# Altium schematic symbol library devices.SCHLIB: 305 symbols (part 3 of 5)
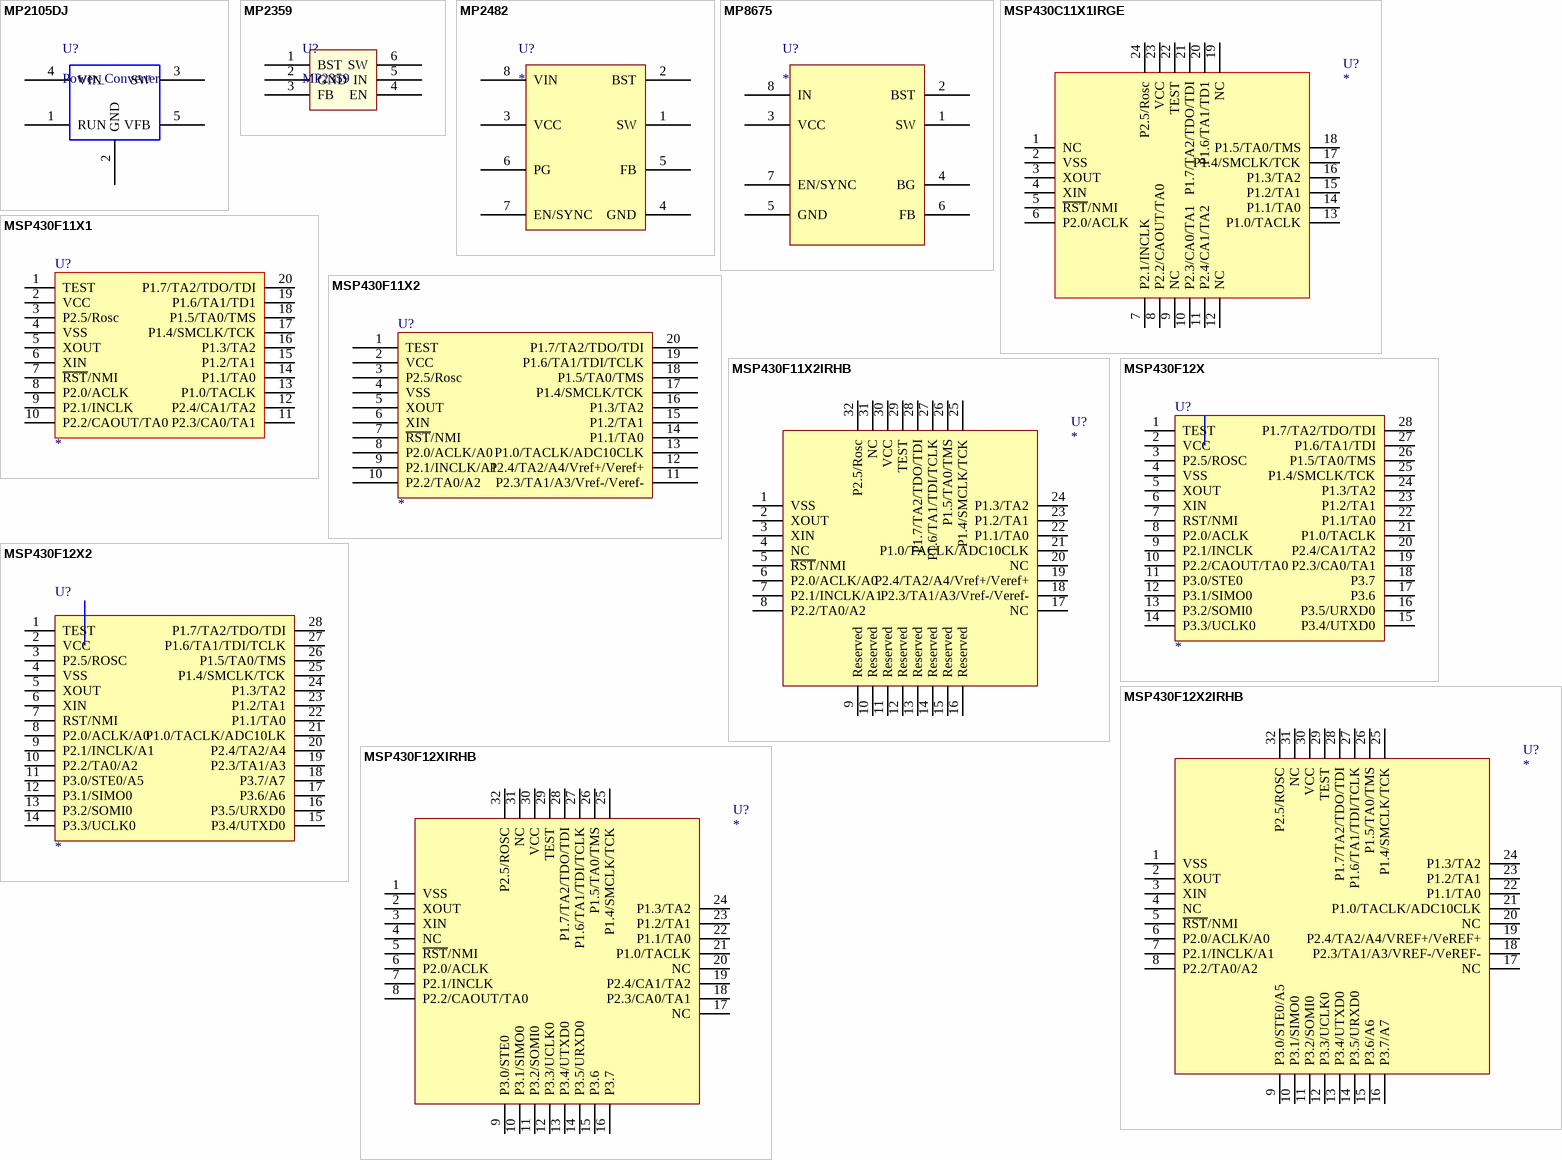
[diagram p51: symbols MP2105DJ to MSP430F12XIRHB]

## MSP430F12XIRHB
designator U?
footprint QFN32
pins: 1 VSS (power), 2 XOUT (power), 3 XIN (power), 4 NC (power), 5 ~{RST}/NMI (power), 6 P2.0/ACLK (power), 7 P2.1/INCLK (power), 8 P2.2/CAOUT/TA0 (power), 9 P3.0/STE0 (power), 10 P3.1/SIMO0 (power), 11 P3.2/SOMI0 (power), 12 P3.3/UCLK0 (power), 13 P3.4/UTXD0 (power), 14 P3.5/URXD0 (power), 15 P3.6 (power), 16 P3.7 (power), 17 NC (power), 18 P2.3/CA0/TA1 (power), 19 P2.4/CA1/TA2 (power), 20 NC (power), 21 P1.0/TACLK (power), 22 P1.1/TA0 (power), 23 P1.2/TA1 (power), 24 P1.3/TA2 (power), 25 P1.4/SMCLK/TCK (power), 26 P1.5/TA0/TMS (power), 27 P1.6/TA1/TDI/TCLK (power), 28 P1.7/TA2/TDO/TDI (power), 29 TEST (power), 30 VCC (power), 31 NC (power), 32 P2.5/ROSC (power)

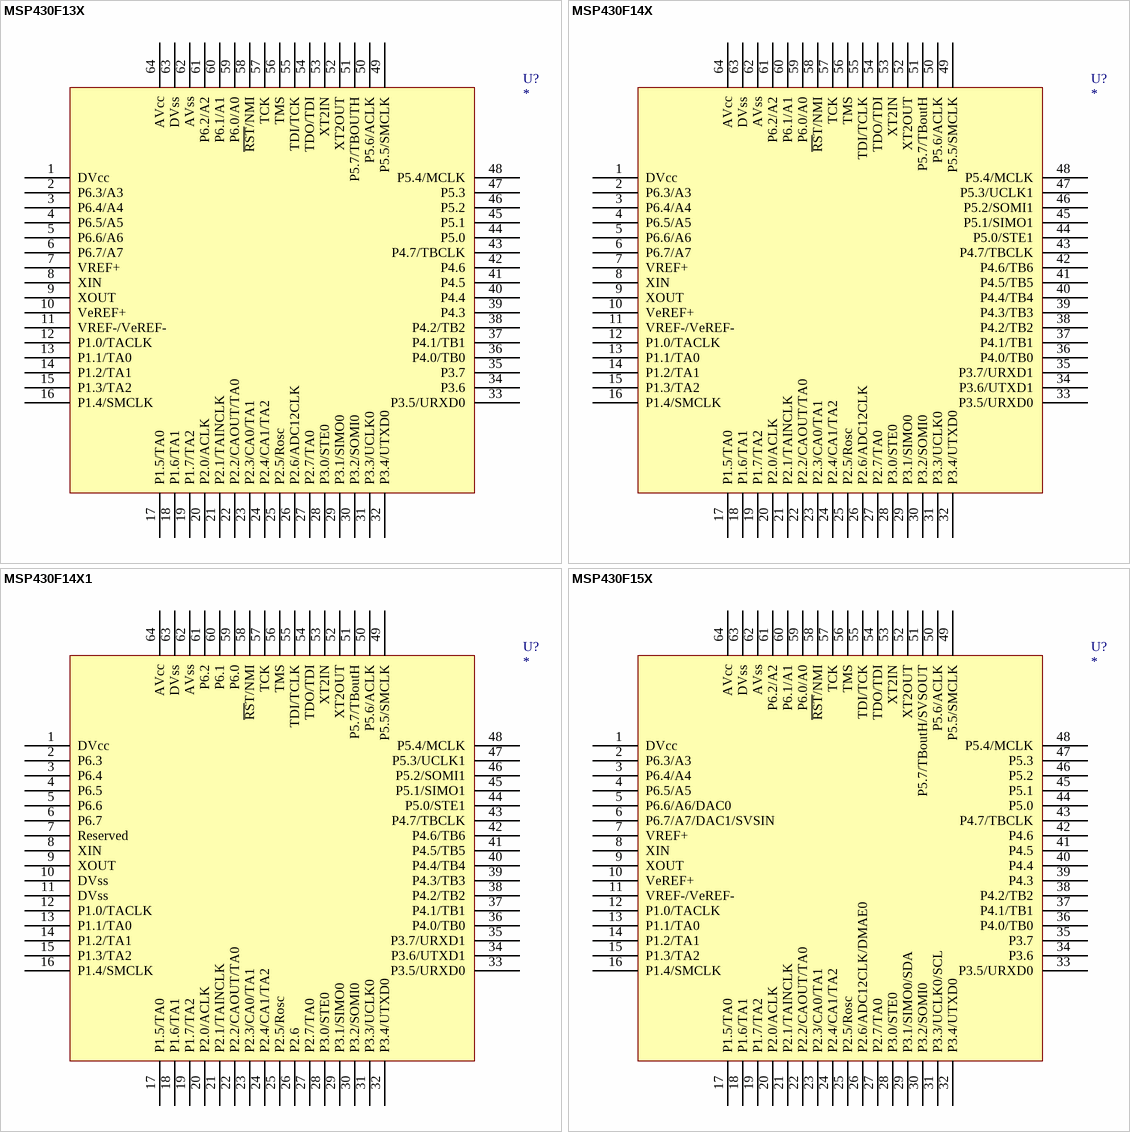
[diagram p14: symbols MSP430F13X to MSP430F15X]

## MSP430F13X
designator U?
footprint S-PQFP-G64
footprint QFN64
pins: 1 DVcc (power), 2 P6.3/A3 (power), 3 P6.4/A4 (power), 4 P6.5/A5 (power), 5 P6.6/A6 (power), 6 P6.7/A7 (power), 7 VREF+ (power), 8 XIN (power), 9 XOUT (power), 10 VeREF+ (power), 11 VREF-/VeREF- (power), 12 P1.0/TACLK (power), 13 P1.1/TA0 (power), 14 P1.2/TA1 (power), 15 P1.3/TA2 (power), 16 P1.4/SMCLK (power), 17 P1.5/TA0 (power), 18 P1.6/TA1 (power), 19 P1.7/TA2 (power), 20 P2.0/ACLK (power), 21 P2.1/TAINCLK (power), 22 P2.2/CAOUT/TA0 (power), 23 P2.3/CA0/TA1 (power), 24 P2.4/CA1/TA2 (power), 25 P2.5/Rosc (power), 26 P2.6/ADC12CLK (power), 27 P2.7/TA0 (power), 28 P3.0/STE0 (power), 29 P3.1/SIMO0 (power), 30 P3.2/SOMI0 (power), 31 P3.3/UCLK0 (power), 32 P3.4/UTXD0 (power), 33 P3.5/URXD0 (power), 34 P3.6 (power), 35 P3.7 (power), 36 P4.0/TB0 (power), 37 P4.1/TB1 (power), 38 P4.2/TB2 (power), 39 P4.3 (power), 40 P4.4 (power), 41 P4.5 (power), 42 P4.6 (power), 43 P4.7/TBCLK (power), 44 P5.0 (power), 45 P5.1 (power), 46 P5.2 (power), 47 P5.3 (power), 48 P5.4/MCLK (power), 49 P5.5/SMCLK (power), 50 P5.6/ACLK (power), 51 P5.7/TBOUTH (power), 52 XT2OUT (power), 53 XT2IN (power), 54 TDO/TDI (power), 55 TDI/TCK (power), 56 TMS (power), 57 TCK (power), 58 ~{RST}/NMI (power), 59 P6.0/A0 (power), 60 P6.1/A1 (power), 61 P6.2/A2 (power), 62 AVss (power), 63 DVss (power), 64 AVcc (power)

## MSP430F14X
designator U?
footprint S-PQFP-G64
footprint QFN64
pins: 1 DVcc (power), 2 P6.3/A3 (power), 3 P6.4/A4 (power), 4 P6.5/A5 (power), 5 P6.6/A6 (power), 6 P6.7/A7 (power), 7 VREF+ (power), 8 XIN (power), 9 XOUT (power), 10 VeREF+ (power), 11 VREF-/VeREF- (power), 12 P1.0/TACLK (power), 13 P1.1/TA0 (power), 14 P1.2/TA1 (power), 15 P1.3/TA2 (power), 16 P1.4/SMCLK (power), 17 P1.5/TA0 (power), 18 P1.6/TA1 (power), 19 P1.7/TA2 (power), 20 P2.0/ACLK (power), 21 P2.1/TAINCLK (power), 22 P2.2/CAOUT/TA0 (power), 23 P2.3/CA0/TA1 (power), 24 P2.4/CA1/TA2 (power), 25 P2.5/Rosc (power), 26 P2.6/ADC12CLK (power), 27 P2.7/TA0 (power), 28 P3.0/STE0 (power), 29 P3.1/SIMO0 (power), 30 P3.2/SOMI0 (power), 31 P3.3/UCLK0 (power), 32 P3.4/UTXD0 (power), 33 P3.5/URXD0 (power), 34 P3.6/UTXD1 (power), 35 P3.7/URXD1 (power), 36 P4.0/TB0 (power), 37 P4.1/TB1 (power), 38 P4.2/TB2 (power), 39 P4.3/TB3 (power), 40 P4.4/TB4 (power), 41 P4.5/TB5 (power), 42 P4.6/TB6 (power), 43 P4.7/TBCLK (power), 44 P5.0/STE1 (power), 45 P5.1/SIMO1 (power), 46 P5.2/SOMI1 (power), 47 P5.3/UCLK1 (power), 48 P5.4/MCLK (power), 49 P5.5/SMCLK (power), 50 P5.6/ACLK (power), 51 P5.7/TBoutH (power), 52 XT2OUT (power), 53 XT2IN (power), 54 TDO/TDI (power), 55 TDI/TCLK (power), 56 TMS (power), 57 TCK (power), 58 ~{RS}T/NMI (power), 59 P6.0/A0 (power), 60 P6.1/A1 (power), 61 P6.2/A2 (power), 62 AVss (power), 63 DVss (power), 64 AVcc (power)

## MSP430F14X1
designator U?
footprint S-PQFP-G64
pins: 1 DVcc (power), 2 P6.3 (power), 3 P6.4 (power), 4 P6.5 (power), 5 P6.6 (power), 6 P6.7 (power), 7 Reserved (power), 8 XIN (power), 9 XOUT (power), 10 DVss (power), 11 DVss (power), 12 P1.0/TACLK (power), 13 P1.1/TA0 (power), 14 P1.2/TA1 (power), 15 P1.3/TA2 (power), 16 P1.4/SMCLK (power), 17 P1.5/TA0 (power), 18 P1.6/TA1 (power), 19 P1.7/TA2 (power), 20 P2.0/ACLK (power), 21 P2.1/TAINCLK (power), 22 P2.2/CAOUT/TA0 (power), 23 P2.3/CA0/TA1 (power), 24 P2.4/CA1/TA2 (power), 25 P2.5/Rosc (power), 26 P2.6 (power), 27 P2.7/TA0 (power), 28 P3.0/STE0 (power), 29 P3.1/SIMO0 (power), 30 P3.2/SOMI0 (power), 31 P3.3/UCLK0 (power), 32 P3.4/UTXD0 (power), 33 P3.5/URXD0 (power), 34 P3.6/UTXD1 (power), 35 P3.7/URXD1 (power), 36 P4.0/TB0 (power), 37 P4.1/TB1 (power), 38 P4.2/TB2 (power), 39 P4.3/TB3 (power), 40 P4.4/TB4 (power), 41 P4.5/TB5 (power), 42 P4.6/TB6 (power), 43 P4.7/TBCLK (power), 44 P5.0/STE1 (power), 45 P5.1/SIMO1 (power), 46 P5.2/SOMI1 (power), 47 P5.3/UCLK1 (power), 48 P5.4/MCLK (power), 49 P5.5/SMCLK (power), 50 P5.6/ACLK (power), 51 P5.7/TBoutH (power), 52 XT2OUT (power), 53 XT2IN (power), 54 TDO/TDI (power), 55 TDI/TCLK (power), 56 TMS (power), 57 TCK (power), 58 ~{RS}T/NMI (power), 59 P6.0 (power), 60 P6.1 (power), 61 P6.2 (power), 62 AVss (power), 63 DVss (power), 64 AVcc (power)

## MSP430F15X
designator U?
footprint S-PQFP-G64
footprint QFN64
pins: 1 DVcc (power), 2 P6.3/A3 (power), 3 P6.4/A4 (power), 4 P6.5/A5 (power), 5 P6.6/A6/DAC0 (power), 6 P6.7/A7/DAC1/SVSIN (power), 7 VREF+ (power), 8 XIN (power), 9 XOUT (power), 10 VeREF+ (power), 11 VREF-/VeREF- (power), 12 P1.0/TACLK (power), 13 P1.1/TA0 (power), 14 P1.2/TA1 (power), 15 P1.3/TA2 (power), 16 P1.4/SMCLK (power), 17 P1.5/TA0 (power), 18 P1.6/TA1 (power), 19 P1.7/TA2 (power), 20 P2.0/ACLK (power), 21 P2.1/TAINCLK (power), 22 P2.2/CAOUT/TA0 (power), 23 P2.3/CA0/TA1 (power), 24 P2.4/CA1/TA2 (power), 25 P2.5/Rosc (power), 26 P2.6/ADC12CLK/DMAE0 (power), 27 P2.7/TA0 (power), 28 P3.0/STE0 (power), 29 P3.1/SIMO0/SDA (power), 30 P3.2/SOMI0 (power), 31 P3.3/UCLK0/SCL (power), 32 P3.4/UTXD0 (power), 33 P3.5/URXD0 (power), 34 P3.6 (power), 35 P3.7 (power), 36 P4.0/TB0 (power), 37 P4.1/TB1 (power), 38 P4.2/TB2 (power), 39 P4.3 (power), 40 P4.4 (power), 41 P4.5 (power), 42 P4.6 (power), 43 P4.7/TBCLK (power), 44 P5.0 (power), 45 P5.1 (power), 46 P5.2 (power), 47 P5.3 (power), 48 P5.4/MCLK (power), 49 P5.5/SMCLK (power), 50 P5.6/ACLK (power), 51 P5.7/TBoutH/SVSOUT (power), 52 XT2OUT (power), 53 XT2IN (power), 54 TDO/TDI (power), 55 TDI/TCK (power), 56 TMS (power), 57 TCK (power), 58 ~{RST}/NMI (power), 59 P6.0/A0 (power), 60 P6.1/A1 (power), 61 P6.2/A2 (power), 62 AVss (power), 63 DVss (power), 64 AVcc (power)

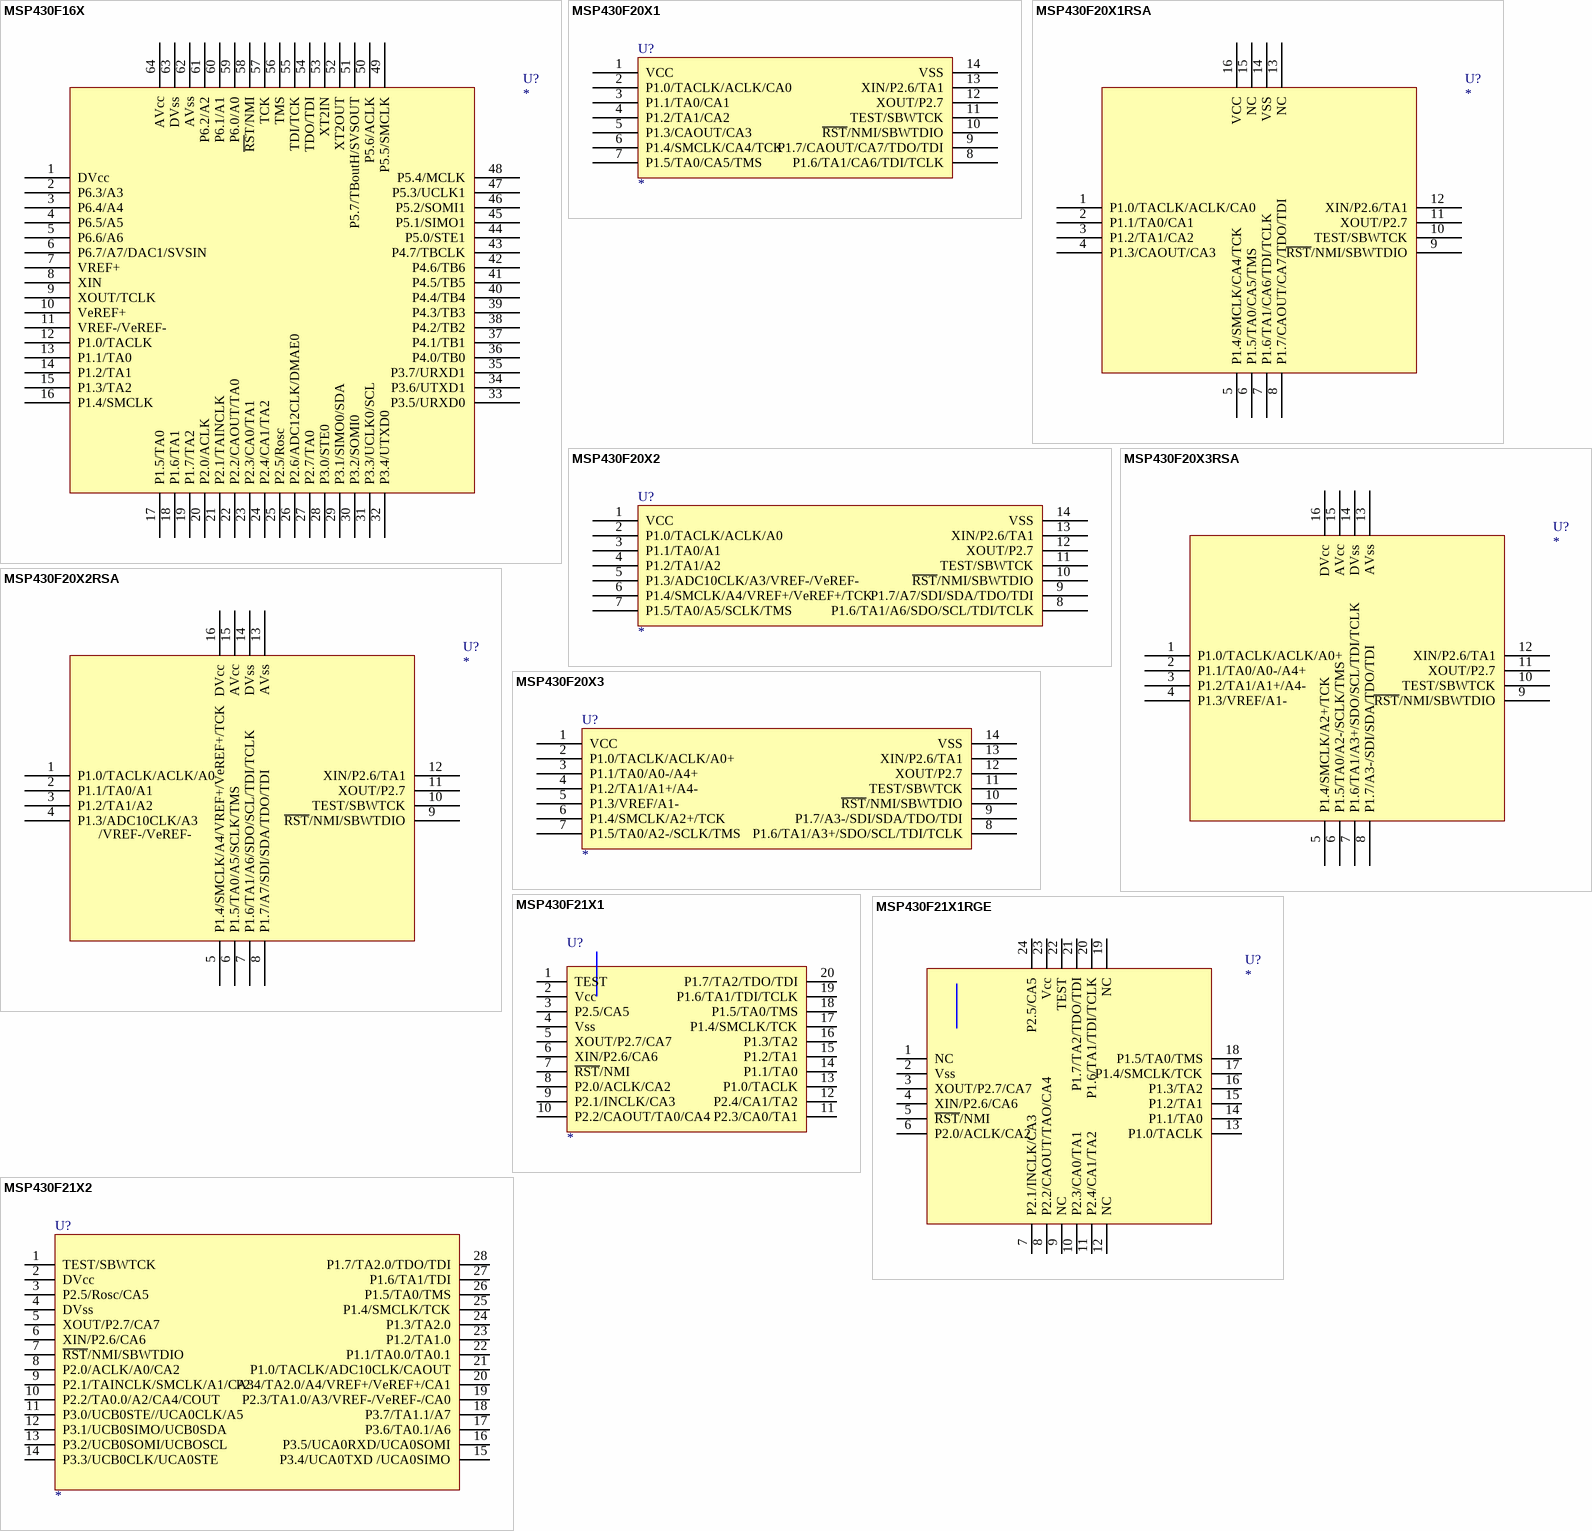
[diagram p15: symbols MSP430F16X to MSP430F21X2]

## MSP430F16X
designator U?
footprint S-PQFP-G64
footprint QFN64
pins: 1 DVcc (power), 2 P6.3/A3 (power), 3 P6.4/A4 (power), 4 P6.5/A5 (power), 5 P6.6/A6 (power), 6 P6.7/A7/DAC1/SVSIN (power), 7 VREF+ (power), 8 XIN (power), 9 XOUT/TCLK (power), 10 VeREF+ (power), 11 VREF-/VeREF- (power), 12 P1.0/TACLK (power), 13 P1.1/TA0 (power), 14 P1.2/TA1 (power), 15 P1.3/TA2 (power), 16 P1.4/SMCLK (power), 17 P1.5/TA0 (power), 18 P1.6/TA1 (power), 19 P1.7/TA2 (power), 20 P2.0/ACLK (power), 21 P2.1/TAINCLK (power), 22 P2.2/CAOUT/TA0 (power), 23 P2.3/CA0/TA1 (power), 24 P2.4/CA1/TA2 (power), 25 P2.5/Rosc (power), 26 P2.6/ADC12CLK/DMAE0 (power), 27 P2.7/TA0 (power), 28 P3.0/STE0 (power), 29 P3.1/SIMO0/SDA (power), 30 P3.2/SOMI0 (power), 31 P3.3/UCLK0/SCL (power), 32 P3.4/UTXD0 (power), 33 P3.5/URXD0 (power), 34 P3.6/UTXD1 (power), 35 P3.7/URXD1 (power), 36 P4.0/TB0 (power), 37 P4.1/TB1 (power), 38 P4.2/TB2 (power), 39 P4.3/TB3 (power), 40 P4.4/TB4 (power), 41 P4.5/TB5 (power), 42 P4.6/TB6 (power), 43 P4.7/TBCLK (power), 44 P5.0/STE1 (power), 45 P5.1/SIMO1 (power), 46 P5.2/SOMI1 (power), 47 P5.3/UCLK1 (power), 48 P5.4/MCLK (power), 49 P5.5/SMCLK (power), 50 P5.6/ACLK (power), 51 P5.7/TBoutH/SVSOUT (power), 52 XT2OUT (power), 53 XT2IN (power), 54 TDO/TDI (power), 55 TDI/TCK (power), 56 TMS (power), 57 TCK (power), 58 ~{RS}T/NMI (power), 59 P6.0/A0 (power), 60 P6.1/A1 (power), 61 P6.2/A2 (power), 62 AVss (power), 63 DVss (power), 64 AVcc (power)

## MSP430F20X1
designator U?
footprint R-PDSO-G14(PW)
pins: 1 VCC, 2 P1.0/TACLK/ACLK/CA0 (power), 3 P1.1/TA0/CA1 (power), 4 P1.2/TA1/CA2 (power), 5 P1.3/CAOUT/CA3 (power), 6 P1.4/SMCLK/CA4/TCK (power), 7 P1.5/TA0/CA5/TMS (power), 8 P1.6/TA1/CA6/TDI/TCLK (power), 9 P1.7/CAOUT/CA7/TDO/TDI (power), 10 ~{RST}/NMI/SBWTDIO (power), 11 TEST/SBWTCK (power), 12 XOUT/P2.7 (power), 13 XIN/P2.6/TA1 (power), 14 VSS (power)

## MSP430F20X1RSA
designator U?
footprint QFN16
pins: 1 P1.0/TACLK/ACLK/CA0 (power), 2 P1.1/TA0/CA1 (power), 3 P1.2/TA1/CA2 (power), 4 P1.3/CAOUT/CA3 (power), 5 P1.4/SMCLK/CA4/TCK (power), 6 P1.5/TA0/CA5/TMS (power), 7 P1.6/TA1/CA6/TDI/TCLK (power), 8 P1.7/CAOUT/CA7/TDO/TDI (power), 9 ~{RST}/NMI/SBWTDIO (power), 10 TEST/SBWTCK (power), 11 XOUT/P2.7 (power), 12 XIN/P2.6/TA1 (power), 13 NC, 14 VSS (power), 15 NC, 16 VCC

## MSP430F20X2
designator U?
footprint R-PDSO-G14(PW)
pins: 1 VCC, 2 P1.0/TACLK/ACLK/A0 (power), 3 P1.1/TA0/A1 (power), 4 P1.2/TA1/A2 (power), 5 P1.3/ADC10CLK/A3/VREF-/VeREF- (power), 6 P1.4/SMCLK/A4/VREF+/VeREF+/TCK (power), 7 P1.5/TA0/A5/SCLK/TMS (power), 8 P1.6/TA1/A6/SDO/SCL/TDI/TCLK (power), 9 P1.7/A7/SDI/SDA/TDO/TDI (power), 10 ~{RST}/NMI/SBWTDIO (power), 11 TEST/SBWTCK (power), 12 XOUT/P2.7 (power), 13 XIN/P2.6/TA1 (power), 14 VSS (power)

## MSP430F20X2RSA
designator U?
footprint QFN16
pins: 1 P1.0/TACLK/ACLK/A0 (power), 2 P1.1/TA0/A1 (power), 3 P1.2/TA1/A2 (power), 4 P1.3/ADC10CLK/A3 (power), 5 P1.4/SMCLK/A4/VREF+/VeREF+/TCK (power), 6 P1.5/TA0/A5/SCLK/TMS (power), 7 P1.6/TA1/A6/SDO/SCL/TDI/TCLK (power), 8 P1.7/A7/SDI/SDA/TDO/TDI (power), 9 ~{RST}/NMI/SBWTDIO (power), 10 TEST/SBWTCK (power), 11 XOUT/P2.7 (power), 12 XIN/P2.6/TA1 (power), 13 AVss, 14 DVss (power), 15 AVcc, 16 DVcc
text: /VREF-/VeREF-

## MSP430F20X3
designator U?
footprint R-PDSO-G14(PW)
pins: 1 VCC, 2 P1.0/TACLK/ACLK/A0+ (power), 3 P1.1/TA0/A0-/A4+ (power), 4 P1.2/TA1/A1+/A4- (power), 5 P1.3/VREF/A1- (power), 6 P1.4/SMCLK/A2+/TCK (power), 7 P1.5/TA0/A2-/SCLK/TMS (power), 8 P1.6/TA1/A3+/SDO/SCL/TDI/TCLK (power), 9 P1.7/A3-/SDI/SDA/TDO/TDI (power), 10 ~{RST}/NMI/SBWTDIO (power), 11 TEST/SBWTCK (power), 12 XOUT/P2.7 (power), 13 XIN/P2.6/TA1 (power), 14 VSS (power)

## MSP430F20X3RSA
designator U?
footprint QFN16
pins: 1 P1.0/TACLK/ACLK/A0+ (power), 2 P1.1/TA0/A0-/A4+ (power), 3 P1.2/TA1/A1+/A4- (power), 4 P1.3/VREF/A1- (power), 5 P1.4/SMCLK/A2+/TCK (power), 6 P1.5/TA0/A2-/SCLK/TMS (power), 7 P1.6/TA1/A3+/SDO/SCL/TDI/TCLK (power), 8 P1.7/A3-/SDI/SDA/TDO/TDI (power), 9 ~{RST}/NMI/SBWTDIO (power), 10 TEST/SBWTCK (power), 11 XOUT/P2.7 (power), 12 XIN/P2.6/TA1 (power), 13 AVss, 14 DVss (power), 15 AVcc, 16 DVcc

## MSP430F21X1
designator U?
footprint R-PDSO-G20(PW)
footprint R-PDSO-G20(DW)
footprint R-PDSO-G20(DGV)
pins: 1 TEST, 2 Vcc, 3 P2.5/CA5, 4 Vss, 5 XOUT/P2.7/CA7, 6 XIN/P2.6/CA6, 7 ~{RST}/NMI, 8 P2.0/ACLK/CA2, 9 P2.1/INCLK/CA3, 10 P2.2/CAOUT/TA0/CA4, 11 P2.3/CA0/TA1, 12 P2.4/CA1/TA2, 13 P1.0/TACLK, 14 P1.1/TA0, 15 P1.2/TA1, 16 P1.3/TA2, 17 P1.4/SMCLK/TCK, 18 P1.5/TA0/TMS, 19 P1.6/TA1/TDI/TCLK, 20 P1.7/TA2/TDO/TDI

## MSP430F21X1RGE
designator U?
footprint QFN24
pins: 1 NC, 2 Vss, 3 XOUT/P2.7/CA7, 4 XIN/P2.6/CA6, 5 ~{RST}/NMI, 6 P2.0/ACLK/CA2, 7 P2.1/INCLK/CA3, 8 P2.2/CAOUT/TAO/CA4, 9 NC, 10 P2.3/CA0/TA1, 11 P2.4/CA1/TA2, 12 NC, 13 P1.0/TACLK, 14 P1.1/TA0, 15 P1.2/TA1, 16 P1.3/TA2, 17 P1.4/SMCLK/TCK, 18 P1.5/TA0/TMS, 19 NC, 20 P1.6/TA1/TDI/TCLK, 21 P1.7/TA2/TDO/TDI, 22 TEST, 23 Vcc, 24 P2.5/CA5

## MSP430F21X2
designator U?
footprint R-PDSO-G28(PW)
pins: 1 TEST/SBWTCK, 2 DVcc, 3 P2.5/Rosc/CA5, 4 DVss (power), 5 XOUT/P2.7/CA7 (power), 6 XIN/P2.6/CA6 (power), 7 ~{RST}/NMI/SBWTDIO (power), 8 P2.0/ACLK/A0/CA2 (power), 9 P2.1/TAINCLK/SMCLK/A1/CA3 (power), 10 P2.2/TA0.0/A2/CA4/COUT (power), 11 P3.0/UCB0STE//UCA0CLK/A5 (power), 12 P3.1/UCB0SIMO/UCB0SDA (power), 13 P3.2/UCB0SOMI/UCBOSCL (power), 14 P3.3/UCB0CLK/UCA0STE (power), 15 P3.4/UCA0TXD /UCA0SIMO (power), 16 P3.5/UCA0RXD/UCA0SOMI (power), 17 P3.6/TA0.1/A6 (power), 18 P3.7/TA1.1/A7 (power), 19 P2.3/TA1.0/A3/VREF-/VeREF-/CA0 (power), 20 P2.4/TA2.0/A4/VREF+/VeREF+/CA1 (power), 21 P1.0/TACLK/ADC10CLK/CAOUT (power), 22 P1.1/TA0.0/TA0.1 (power), 23 P1.2/TA1.0 (power), 24 P1.3/TA2.0 (power), 25 P1.4/SMCLK/TCK, 26 P1.5/TA0/TMS, 27 P1.6/TA1/TDI, 28 P1.7/TA2.0/TDO/TDI

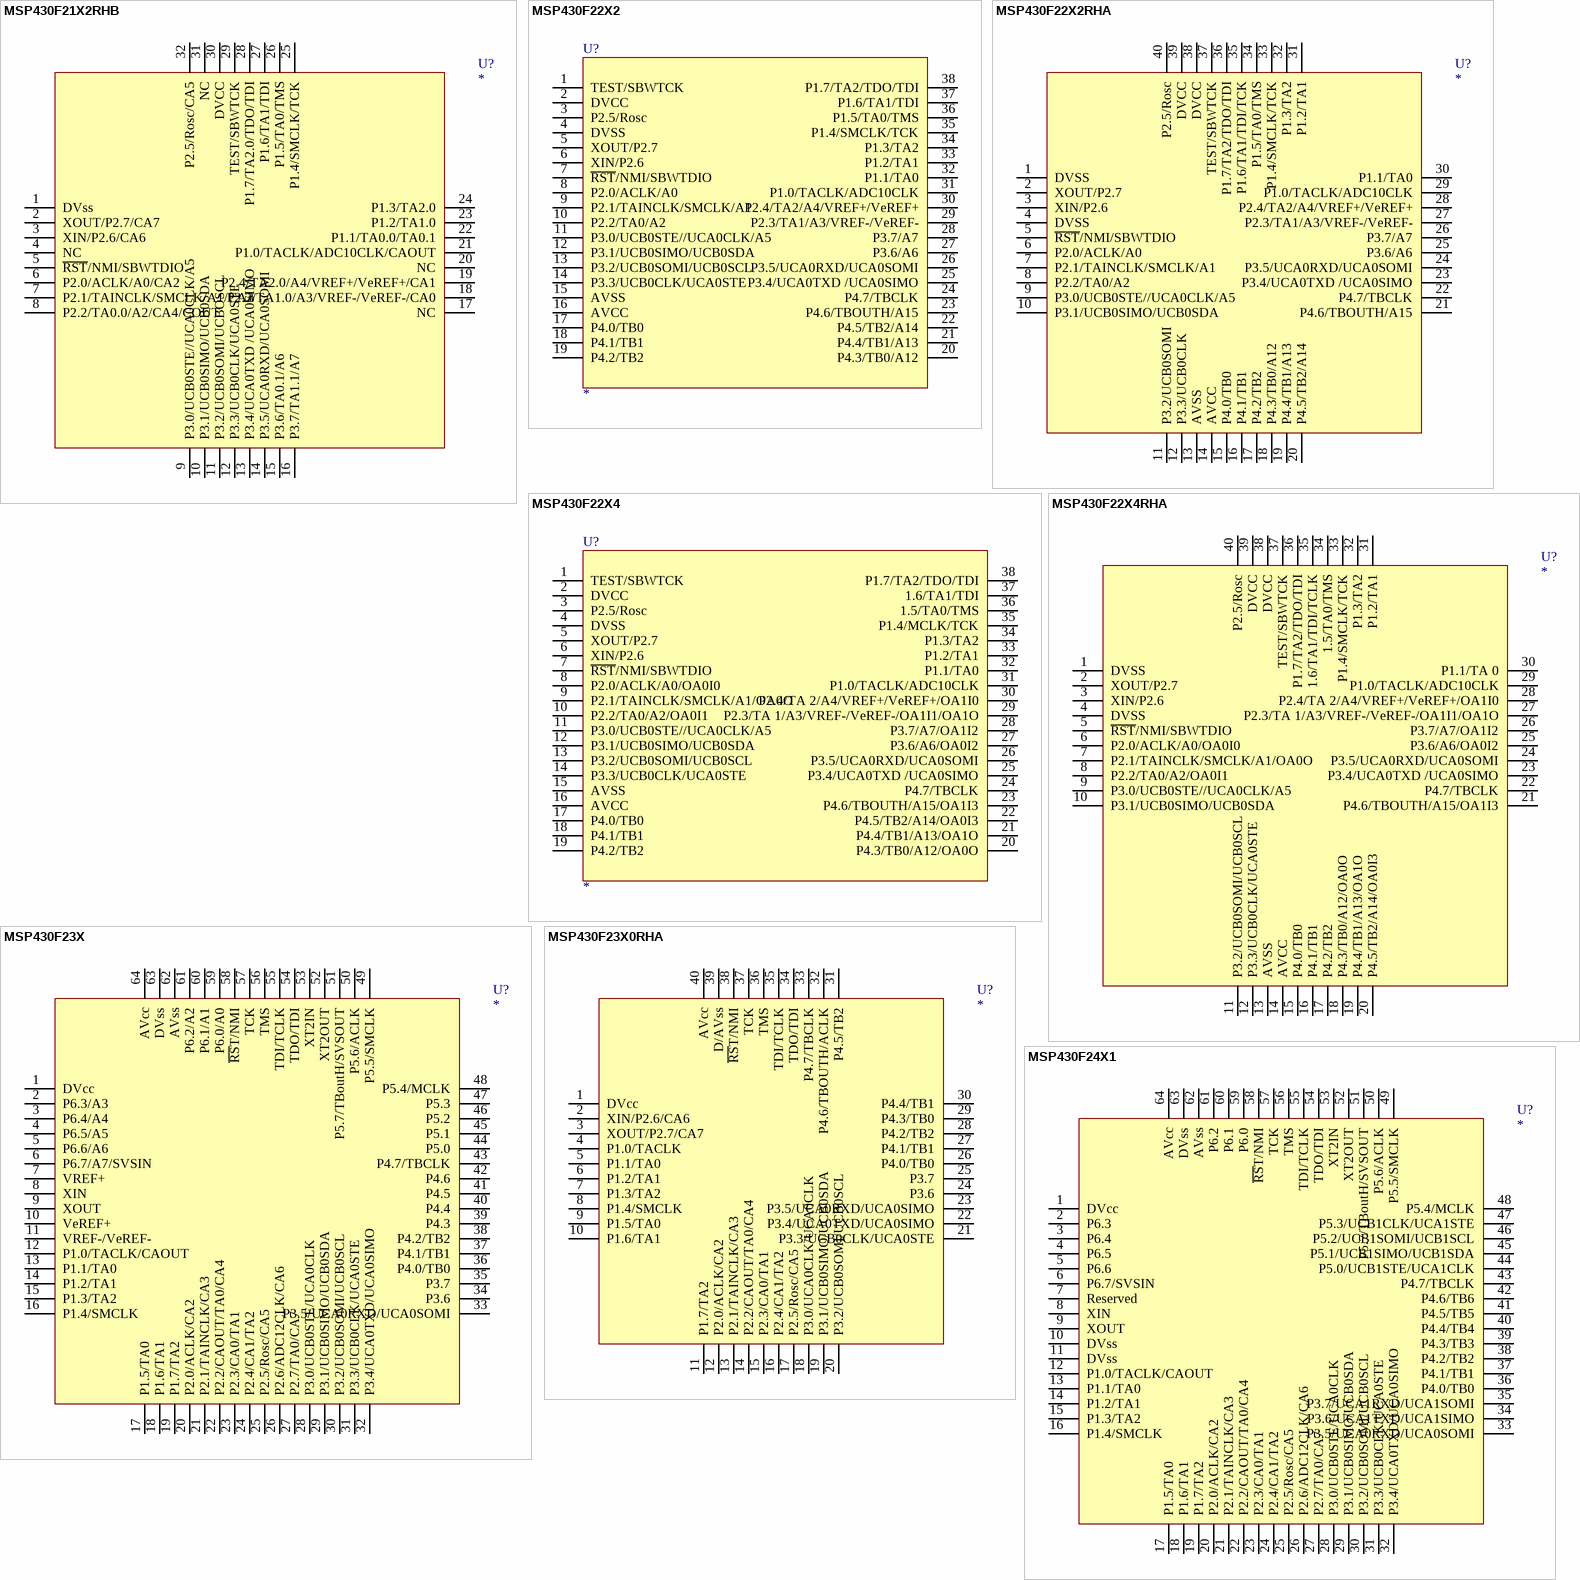
[diagram p16: symbols MSP430F21X2RHB to MSP430F24X1]

## MSP430F21X2RHB
designator U?
footprint QFN32
pins: 1 DVss (power), 2 XOUT/P2.7/CA7 (power), 3 XIN/P2.6/CA6 (power), 4 NC, 5 ~{RST}/NMI/SBWTDIO (power), 6 P2.0/ACLK/A0/CA2 (power), 7 P2.1/TAINCLK/SMCLK/A1/CA3 (power), 8 P2.2/TA0.0/A2/CA4/COUT (power), 9 P3.0/UCB0STE//UCA0CLK/A5 (power), 10 P3.1/UCB0SIMO/UCB0SDA (power), 11 P3.2/UCB0SOMI/UCBOSCL (power), 12 P3.3/UCB0CLK/UCA0STE (power), 13 P3.4/UCA0TXD /UCA0SIMO (power), 14 P3.5/UCA0RXD/UCA0SOMI (power), 15 P3.6/TA0.1/A6 (power), 16 P3.7/TA1.1/A7 (power), 17 NC (power), 18 P2.3/TA1.0/A3/VREF-/VeREF-/CA0 (power), 19 P2.4/TA2.0/A4/VREF+/VeREF+/CA1 (power), 20 NC (power), 21 P1.0/TACLK/ADC10CLK/CAOUT (power), 22 P1.1/TA0.0/TA0.1 (power), 23 P1.2/TA1.0 (power), 24 P1.3/TA2.0 (power), 25 P1.4/SMCLK/TCK, 26 P1.5/TA0/TMS, 27 P1.6/TA1/TDI, 28 P1.7/TA2.0/TDO/TDI, 29 TEST/SBWTCK, 30 DVCC, 31 NC, 32 P2.5/Rosc/CA5

## MSP430F22X2
designator U?
footprint R-PDSO-G38(DA)
pins: 1 TEST/SBWTCK, 2 DVCC, 3 P2.5/Rosc, 4 DVSS (power), 5 XOUT/P2.7 (power), 6 XIN/P2.6 (power), 7 ~{RST}/NMI/SBWTDIO (power), 8 P2.0/ACLK/A0 (power), 9 P2.1/TAINCLK/SMCLK/A1 (power), 10 P2.2/TA0/A2 (power), 11 P3.0/UCB0STE//UCA0CLK/A5 (power), 12 P3.1/UCB0SIMO/UCB0SDA (power), 13 P3.2/UCB0SOMI/UCB0SCL (power), 14 P3.3/UCB0CLK/UCA0STE (power), 15 AVSS (power), 16 AVCC (power), 17 P4.0/TB0 (power), 18 P4.1/TB1 (power), 19 P4.2/TB2 (power), 20 P4.3/TB0/A12 (power), 21 P4.4/TB1/A13 (power), 22 P4.5/TB2/A14 (power), 23 P4.6/TBOUTH/A15 (power), 24 P4.7/TBCLK (power), 25 P3.4/UCA0TXD /UCA0SIMO (power), 26 P3.5/UCA0RXD/UCA0SOMI (power), 27 P3.6/A6 (power), 28 P3.7/A7 (power), 29 P2.3/TA1/A3/VREF-/VeREF- (power), 30 P2.4/TA2/A4/VREF+/VeREF+ (power), 31 P1.0/TACLK/ADC10CLK (power), 32 P1.1/TA0 (power), 33 P1.2/TA1 (power), 34 P1.3/TA2 (power), 35 P1.4/SMCLK/TCK, 36 P1.5/TA0/TMS, 37 P1.6/TA1/TDI, 38 P1.7/TA2/TDO/TDI

## MSP430F22X2RHA
designator U?
footprint QFN40
pins: 1 DVSS (power), 2 XOUT/P2.7 (power), 3 XIN/P2.6 (power), 4 DVSS, 5 ~{RST}/NMI/SBWTDIO (power), 6 P2.0/ACLK/A0 (power), 7 P2.1/TAINCLK/SMCLK/A1 (power), 8 P2.2/TA0/A2 (power), 9 P3.0/UCB0STE//UCA0CLK/A5 (power), 10 P3.1/UCB0SIMO/UCB0SDA (power), 11 P3.2/UCB0SOMI (power), 12 P3.3/UCB0CLK (power), 13 AVSS (power), 14 AVCC (power), 15 P4.0/TB0 (power), 16 P4.1/TB1 (power), 17 P4.2/TB2 (power), 18 P4.3/TB0/A12 (power), 19 P4.4/TB1/A13 (power), 20 P4.5/TB2/A14 (power), 21 P4.6/TBOUTH/A15 (power), 22 P4.7/TBCLK (power), 23 P3.4/UCA0TXD /UCA0SIMO (power), 24 P3.5/UCA0RXD/UCA0SOMI (power), 25 P3.6/A6 (power), 26 P3.7/A7 (power), 27 P2.3/TA1/A3/VREF-/VeREF- (power), 28 P2.4/TA2/A4/VREF+/VeREF+ (power), 29 P1.0/TACLK/ADC10CLK (power), 30 P1.1/TA0 (power), 31 P1.2/TA1 (power), 32 P1.3/TA2 (power), 33 P1.4/SMCLK/TCK, 34 P1.5/TA0/TMS, 35 P1.6/TA1/TDI/TCK, 36 P1.7/TA2/TDO/TDI, 37 TEST/SBWTCK, 38 DVCC, 39 DVCC, 40 P2.5/Rosc

## MSP430F22X4
designator U?
footprint R-PDSO-G38(DA)
pins: 1 TEST/SBWTCK, 2 DVCC, 3 P2.5/Rosc, 4 DVSS (power), 5 XOUT/P2.7 (power), 6 XIN/P2.6 (power), 7 ~{RST}/NMI/SBWTDIO (power), 8 P2.0/ACLK/A0/OA0I0 (power), 9 P2.1/TAINCLK/SMCLK/A1/OA0O (power), 10 P2.2/TA0/A2/OA0I1 (power), 11 P3.0/UCB0STE//UCA0CLK/A5 (power), 12 P3.1/UCB0SIMO/UCB0SDA (power), 13 P3.2/UCB0SOMI/UCB0SCL (power), 14 P3.3/UCB0CLK/UCA0STE (power), 15 AVSS (power), 16 AVCC (power), 17 P4.0/TB0 (power), 18 P4.1/TB1 (power), 19 P4.2/TB2 (power), 20 P4.3/TB0/A12/OA0O (power), 21 P4.4/TB1/A13/OA1O (power), 22 P4.5/TB2/A14/OA0I3 (power), 23 P4.6/TBOUTH/A15/OA1I3 (power), 24 P4.7/TBCLK (power), 25 P3.4/UCA0TXD /UCA0SIMO (power), 26 P3.5/UCA0RXD/UCA0SOMI (power), 27 P3.6/A6/OA0I2 (power), 28 P3.7/A7/OA1I2 (power), 29 P2.3/TA 1/A3/VREF-/VeREF-/OA1I1/OA1O (power), 30 P2.4/TA 2/A4/VREF+/VeREF+/OA1I0 (power), 31 P1.0/TACLK/ADC10CLK (power), 32 P1.1/TA0 (power), 33 P1.2/TA1 (power), 34 P1.3/TA2 (power), 35 P1.4/MCLK/TCK, 36 1.5/TA0/TMS, 37 1.6/TA1/TDI, 38 P1.7/TA2/TDO/TDI

## MSP430F22X4RHA
designator U?
footprint QFN40
pins: 1 DVSS (power), 2 XOUT/P2.7 (power), 3 XIN/P2.6 (power), 4 DVSS (power), 5 ~{RST}/NMI/SBWTDIO (power), 6 P2.0/ACLK/A0/OA0I0 (power), 7 P2.1/TAINCLK/SMCLK/A1/OA0O (power), 8 P2.2/TA0/A2/OA0I1 (power), 9 P3.0/UCB0STE//UCA0CLK/A5 (power), 10 P3.1/UCB0SIMO/UCB0SDA (power), 11 P3.2/UCB0SOMI/UCB0SCL (power), 12 P3.3/UCB0CLK/UCA0STE (power), 13 AVSS (power), 14 AVCC (power), 15 P4.0/TB0 (power), 16 P4.1/TB1 (power), 17 P4.2/TB2 (power), 18 P4.3/TB0/A12/OA0O (power), 19 P4.4/TB1/A13/OA1O (power), 20 P4.5/TB2/A14/OA0I3 (power), 21 P4.6/TBOUTH/A15/OA1I3 (power), 22 P4.7/TBCLK (power), 23 P3.4/UCA0TXD /UCA0SIMO (power), 24 P3.5/UCA0RXD/UCA0SOMI (power), 25 P3.6/A6/OA0I2 (power), 26 P3.7/A7/OA1I2 (power), 27 P2.3/TA 1/A3/VREF-/VeREF-/OA1I1/OA1O (power), 28 P2.4/TA 2/A4/VREF+/VeREF+/OA1I0 (power), 29 P1.0/TACLK/ADC10CLK (power), 30 P1.1/TA 0 (power), 31 P1.2/TA1 (power), 32 P1.3/TA2 (power), 33 P1.4/SMCLK/TCK, 34 1.5/TA0/TMS, 35 1.6/TA1/TDI/TCLK, 36 P1.7/TA2/TDO/TDI, 37 TEST/SBWTCK, 38 DVCC, 39 DVCC, 40 P2.5/Rosc

## MSP430F23X
designator U?
footprint S-PQFP-G64
pins: 1 DVcc (power), 2 P6.3/A3 (power), 3 P6.4/A4 (power), 4 P6.5/A5 (power), 5 P6.6/A6 (power), 6 P6.7/A7/SVSIN (power), 7 VREF+ (power), 8 XIN (power), 9 XOUT (power), 10 VeREF+ (power), 11 VREF-/VeREF- (power), 12 P1.0/TACLK/CAOUT (power), 13 P1.1/TA0 (power), 14 P1.2/TA1 (power), 15 P1.3/TA2 (power), 16 P1.4/SMCLK (power), 17 P1.5/TA0 (power), 18 P1.6/TA1 (power), 19 P1.7/TA2 (power), 20 P2.0/ACLK/CA2 (power), 21 P2.1/TAINCLK/CA3 (power), 22 P2.2/CAOUT/TA0/CA4 (power), 23 P2.3/CA0/TA1 (power), 24 P2.4/CA1/TA2 (power), 25 P2.5/Rosc/CA5 (power), 26 P2.6/ADC12CLK/CA6 (power), 27 P2.7/TA0/CA7 (power), 28 P3.0/UCB0STE/UCA0CLK (power), 29 P3.1/UCB0SIMO/UCB0SDA (power), 30 P3.2/UCB0SOMI/UCB0SCL (power), 31 P3.3/UCB0CLK/UCA0STE (power), 32 P3.4/UCA0TXD/UCA0SIMO (power), 33 P3.5/UCA0RXD/UCA0SOMI (power), 34 P3.6 (power), 35 P3.7 (power), 36 P4.0/TB0 (power), 37 P4.1/TB1 (power), 38 P4.2/TB2 (power), 39 P4.3 (power), 40 P4.4 (power), 41 P4.5 (power), 42 P4.6 (power), 43 P4.7/TBCLK (power), 44 P5.0 (power), 45 P5.1 (power), 46 P5.2 (power), 47 P5.3 (power), 48 P5.4/MCLK (power), 49 P5.5/SMCLK (power), 50 P5.6/ACLK (power), 51 P5.7/TBoutH/SVSOUT (power), 52 XT2OUT (power), 53 XT2IN (power), 54 TDO/TDI (power), 55 TDI/TCLK (power), 56 TMS (power), 57 TCK (power), 58 ~{RS}T/NMI (power), 59 P6.0/A0 (power), 60 P6.1/A1 (power), 61 P6.2/A2 (power), 62 AVss (power), 63 DVss (power), 64 AVcc (power)

## MSP430F23X0RHA
designator U?
footprint QFN40
pins: 1 DVcc (power), 2 XIN/P2.6/CA6 (power), 3 XOUT/P2.7/CA7 (power), 4 P1.0/TACLK (power), 5 P1.1/TA0 (power), 6 P1.2/TA1 (power), 7 P1.3/TA2 (power), 8 P1.4/SMCLK (power), 9 P1.5/TA0 (power), 10 P1.6/TA1 (power), 11 P1.7/TA2 (power), 12 P2.0/ACLK/CA2 (power), 13 P2.1/TAINCLK/CA3 (power), 14 P2.2/CAOUT/TA0/CA4 (power), 15 P2.3/CA0/TA1 (power), 16 P2.4/CA1/TA2 (power), 17 P2.5/Rosc/CA5 (power), 18 P3.0/UCA0CLK/UCA0CLK (power), 19 P3.1/UCB0SIMO/UCB0SDA (power), 20 P3.2/UCB0SOMI/UCB0SCL (power), 21 P3.3/UCB0CLK/UCA0STE (power), 22 P3.4/UCA0TXD/UCA0SIMO (power), 23 P3.5/UCA0RXD/UCA0SIMO (power), 24 P3.6 (power), 25 P3.7 (power), 26 P4.0/TB0 (power), 27 P4.1/TB1 (power), 28 P4.2/TB2 (power), 29 P4.3/TB0 (power), 30 P4.4/TB1 (power), 31 P4.5/TB2 (power), 32 P4.6/TBOUTH/ACLK (power), 33 P4.7/TBCLK, 34 TDO/TDI, 35 TDI/TCLK, 36 TMS, 37 TCK, 38 ~{RS}T/NMI, 39 D/AVss, 40 AVcc

## MSP430F24X1
designator U?
footprint S-PQFP-G64
pins: 1 DVcc (power), 2 P6.3 (power), 3 P6.4 (power), 4 P6.5 (power), 5 P6.6 (power), 6 P6.7/SVSIN (power), 7 Reserved (power), 8 XIN (power), 9 XOUT (power), 10 DVss (power), 11 DVss (power), 12 P1.0/TACLK/CAOUT (power), 13 P1.1/TA0 (power), 14 P1.2/TA1 (power), 15 P1.3/TA2 (power), 16 P1.4/SMCLK (power), 17 P1.5/TA0 (power), 18 P1.6/TA1 (power), 19 P1.7/TA2 (power), 20 P2.0/ACLK/CA2 (power), 21 P2.1/TAINCLK/CA3 (power), 22 P2.2/CAOUT/TA0/CA4 (power), 23 P2.3/CA0/TA1 (power), 24 P2.4/CA1/TA2 (power), 25 P2.5/Rosc/CA5 (power), 26 P2.6/ADC12CLK/CA6 (power), 27 P2.7/TA0/CA7 (power), 28 P3.0/UCB0STE/UCA0CLK (power), 29 P3.1/UCB0SIMO/UCB0SDA (power), 30 P3.2/UCB0SOMI/UCB0SCL (power), 31 P3.3/UCB0CLK/UCA0STE (power), 32 P3.4/UCA0TXD/UCA0SIMO (power), 33 P3.5/UCA0RXD/UCA0SOMI (power), 34 P3.6/UCA1TXD/UCA1SIMO (power), 35 P3.7/UCA1RXD/UCA1SOMI (power), 36 P4.0/TB0 (power), 37 P4.1/TB1 (power), 38 P4.2/TB2 (power), 39 P4.3/TB3 (power), 40 P4.4/TB4 (power), 41 P4.5/TB5 (power), 42 P4.6/TB6 (power), 43 P4.7/TBCLK (power), 44 P5.0/UCB1STE/UCA1CLK (power), 45 P5.1/UCB1SIMO/UCB1SDA (power), 46 P5.2/UCB1SOMI/UCB1SCL (power), 47 P5.3/UCB1CLK/UCA1STE (power), 48 P5.4/MCLK (power), 49 P5.5/SMCLK (power), 50 P5.6/ACLK (power), 51 P5.7/TBoutH/SVSOUT (power), 52 XT2OUT (power), 53 XT2IN (power), 54 TDO/TDI (power), 55 TDI/TCLK (power), 56 TMS (power), 57 TCK (power), 58 ~{RS}T/NMI (power), 59 P6.0 (power), 60 P6.1 (power), 61 P6.2 (power), 62 AVss (power), 63 DVss (power), 64 AVcc (power)

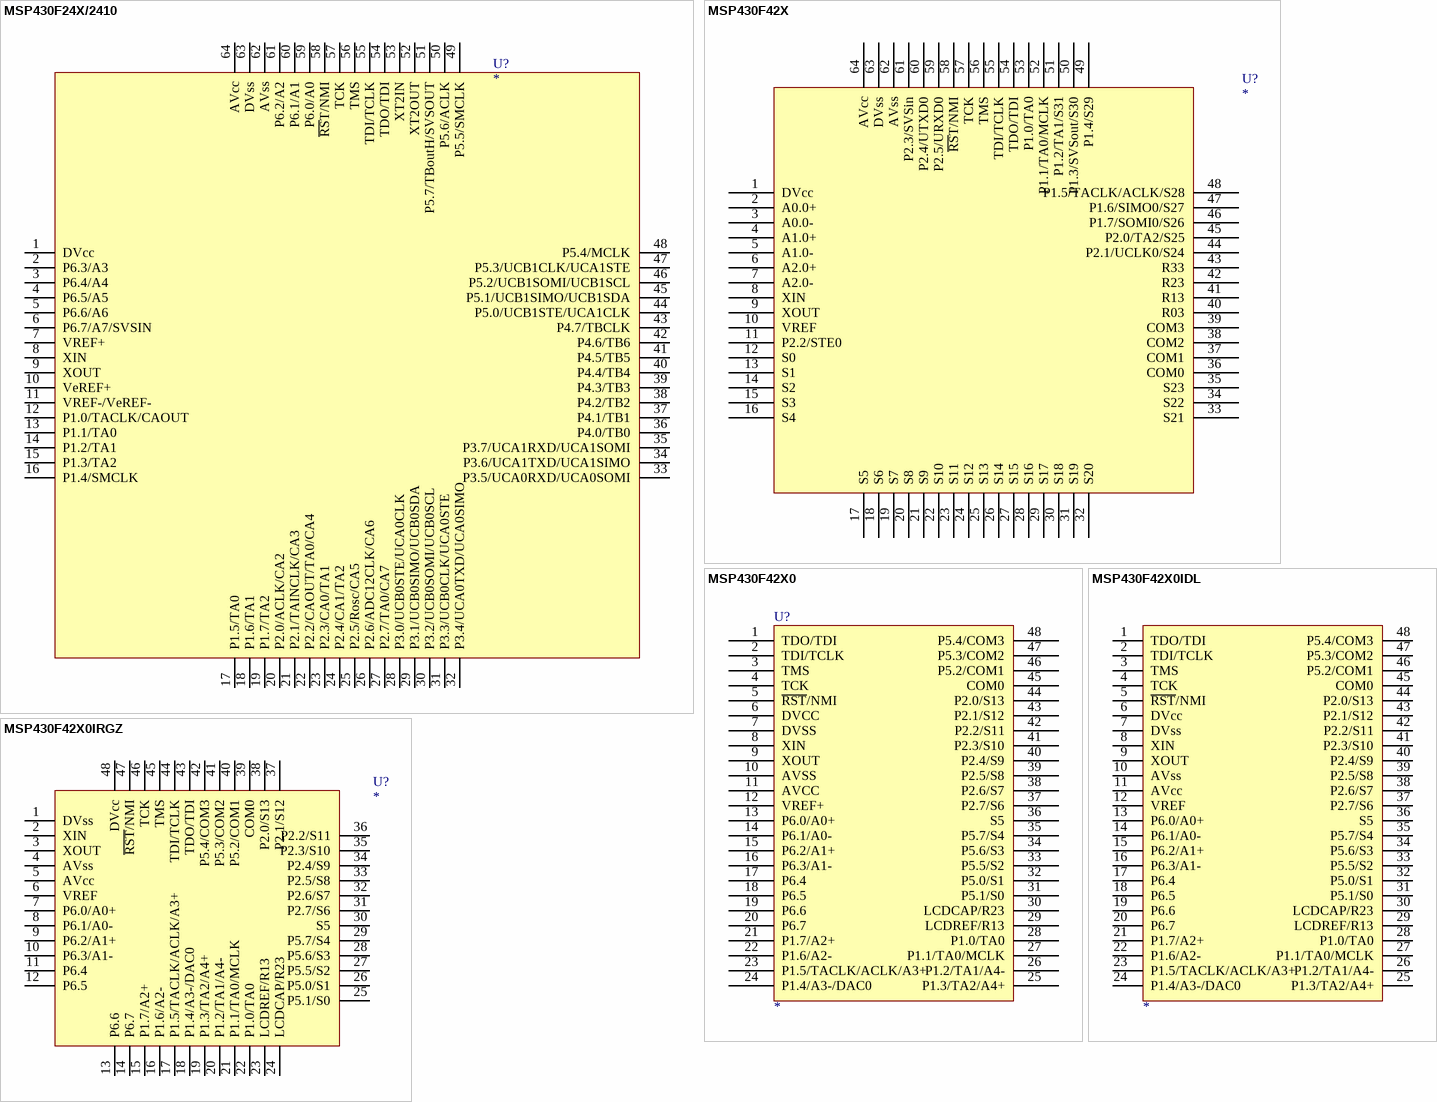
[diagram p17: symbols MSP430F24X/2410 to MSP430F42X0IRGZ]

## MSP430F24X/2410
designator U?
footprint S-PQFP-G64
pins: 1 DVcc (power), 2 P6.3/A3 (power), 3 P6.4/A4 (power), 4 P6.5/A5 (power), 5 P6.6/A6 (power), 6 P6.7/A7/SVSIN (power), 7 VREF+ (power), 8 XIN (power), 9 XOUT (power), 10 VeREF+ (power), 11 VREF-/VeREF- (power), 12 P1.0/TACLK/CAOUT (power), 13 P1.1/TA0 (power), 14 P1.2/TA1 (power), 15 P1.3/TA2 (power), 16 P1.4/SMCLK (power), 17 P1.5/TA0 (power), 18 P1.6/TA1 (power), 19 P1.7/TA2 (power), 20 P2.0/ACLK/CA2 (power), 21 P2.1/TAINCLK/CA3 (power), 22 P2.2/CAOUT/TA0/CA4 (power), 23 P2.3/CA0/TA1 (power), 24 P2.4/CA1/TA2 (power), 25 P2.5/Rosc/CA5 (power), 26 P2.6/ADC12CLK/CA6 (power), 27 P2.7/TA0/CA7 (power), 28 P3.0/UCB0STE/UCA0CLK (power), 29 P3.1/UCB0SIMO/UCB0SDA (power), 30 P3.2/UCB0SOMI/UCB0SCL (power), 31 P3.3/UCB0CLK/UCA0STE (power), 32 P3.4/UCA0TXD/UCA0SIMO (power), 33 P3.5/UCA0RXD/UCA0SOMI (power), 34 P3.6/UCA1TXD/UCA1SIMO (power), 35 P3.7/UCA1RXD/UCA1SOMI (power), 36 P4.0/TB0 (power), 37 P4.1/TB1 (power), 38 P4.2/TB2 (power), 39 P4.3/TB3 (power), 40 P4.4/TB4 (power), 41 P4.5/TB5 (power), 42 P4.6/TB6 (power), 43 P4.7/TBCLK (power), 44 P5.0/UCB1STE/UCA1CLK (power), 45 P5.1/UCB1SIMO/UCB1SDA (power), 46 P5.2/UCB1SOMI/UCB1SCL (power), 47 P5.3/UCB1CLK/UCA1STE (power), 48 P5.4/MCLK (power), 49 P5.5/SMCLK (power), 50 P5.6/ACLK (power), 51 P5.7/TBoutH/SVSOUT (power), 52 XT2OUT (power), 53 XT2IN (power), 54 TDO/TDI (power), 55 TDI/TCLK (power), 56 TMS (power), 57 TCK (power), 58 ~{RS}T/NMI (power), 59 P6.0/A0 (power), 60 P6.1/A1 (power), 61 P6.2/A2 (power), 62 AVss (power), 63 DVss (power), 64 AVcc (power)

## MSP430F42X
designator U?
footprint S-PQFP-G64
pins: 1 DVcc (power), 2 A0.0+ (power), 3 A0.0- (power), 4 A1.0+ (power), 5 A1.0- (power), 6 A2.0+ (power), 7 A2.0- (power), 8 XIN (power), 9 XOUT (power), 10 VREF (power), 11 P2.2/STE0 (power), 12 S0 (power), 13 S1 (power), 14 S2 (power), 15 S3 (power), 16 S4 (power), 17 S5 (power), 18 S6 (power), 19 S7 (power), 20 S8 (power), 21 S9 (power), 22 S10 (power), 23 S11 (power), 24 S12 (power), 25 S13 (power), 26 S14 (power), 27 S15 (power), 28 S16 (power), 29 S17 (power), 30 S18 (power), 31 S19 (power), 32 S20 (power), 33 S21 (power), 34 S22 (power), 35 S23 (power), 36 COM0 (power), 37 COM1 (power), 38 COM2 (power), 39 COM3 (power), 40 R03 (power), 41 R13 (power), 42 R23 (power), 43 R33 (power), 44 P2.1/UCLK0/S24 (power), 45 P2.0/TA2/S25 (power), 46 P1.7/SOMI0/S26 (power), 47 P1.6/SIMO0/S27 (power), 48 P1.5/TACLK/ACLK/S28 (power), 49 P1.4/S29 (power), 50 P1.3/SVSout/S30 (power), 51 P1.2/TA1/S31 (power), 52 P1.1/TA0/MCLK (power), 53 P1.0/TA0 (power), 54 TDO/TDI (power), 55 TDI/TCLK (power), 56 TMS (power), 57 TCK (power), 58 ~{RS}T/NMI (power), 59 P2.5/URXD0 (power), 60 P2.4/UTXD0 (power), 61 P2.3/SVSin (power), 62 AVss (power), 63 DVss (power), 64 AVcc (power)

## MSP430F42X0
designator U?
footprint R-PDSO-G48(DL)
footprint TSSOP48
pins: 1 TDO/TDI, 2 TDI/TCLK (power), 3 TMS (power), 4 TCK (power), 5 ~{RST}/NMI (power), 6 DVCC (power), 7 DVSS (power), 8 XIN (power), 9 XOUT (power), 10 AVSS (power), 11 AVCC (power), 12 VREF+ (power), 13 P6.0/A0+ (power), 14 P6.1/A0- (power), 15 P6.2/A1+ (power), 16 P6.3/A1- (power), 17 P6.4 (power), 18 P6.5 (power), 19 P6.6 (power), 20 P6.7 (power), 21 P1.7/A2+, 22 P1.6/A2-, 23 P1.5/TACLK/ACLK/A3+, 24 P1.4/A3-/DAC0, 25 P1.3/TA2/A4+, 26 P1.2/TA1/A4-, 27 P1.1/TA0/MCLK, 28 P1.0/TA0, 29 LCDREF/R13, 30 LCDCAP/R23, 31 P5.1/S0, 32 P5.0/S1, 33 P5.5/S2, 34 P5.6/S3, 35 P5.7/S4, 36 S5, 37 P2.7/S6, 38 P2.6/S7, 39 P2.5/S8, 40 P2.4/S9, 41 P2.3/S10, 42 P2.2/S11, 43 P2.1/S12, 44 P2.0/S13, 45 COM0, 46 P5.2/COM1, 47 P5.3/COM2, 48 P5.4/COM3

## MSP430F42X0IDL
designator ?
pins: 1 TDO/TDI, 2 TDI/TCLK (power), 3 TMS (power), 4 TCK (power), 5 ~{RST}/NMI (power), 6 DVcc (power), 7 DVss (power), 8 XIN (power), 9 XOUT (power), 10 AVss (power), 11 AVcc (power), 12 VREF (power), 13 P6.0/A0+ (power), 14 P6.1/A0- (power), 15 P6.2/A1+ (power), 16 P6.3/A1- (power), 17 P6.4 (power), 18 P6.5 (power), 19 P6.6 (power), 20 P6.7 (power), 21 P1.7/A2+, 22 P1.6/A2-, 23 P1.5/TACLK/ACLK/A3+, 24 P1.4/A3-/DAC0, 25 P1.3/TA2/A4+, 26 P1.2/TA1/A4-, 27 P1.1/TA0/MCLK, 28 P1.0/TA0, 29 LCDREF/R13, 30 LCDCAP/R23, 31 P5.1/S0, 32 P5.0/S1, 33 P5.5/S2, 34 P5.6/S3, 35 P5.7/S4, 36 S5, 37 P2.7/S6, 38 P2.6/S7, 39 P2.5/S8, 40 P2.4/S9, 41 P2.3/S10, 42 P2.2/S11, 43 P2.1/S12, 44 P2.0/S13, 45 COM0, 46 P5.2/COM1, 47 P5.3/COM2, 48 P5.4/COM3

## MSP430F42X0IRGZ
designator U?
footprint QFN48
pins: 1 DVss (power), 2 XIN (power), 3 XOUT (power), 4 AVss (power), 5 AVcc (power), 6 VREF (power), 7 P6.0/A0+ (power), 8 P6.1/A0- (power), 9 P6.2/A1+ (power), 10 P6.3/A1- (power), 11 P6.4 (power), 12 P6.5 (power), 13 P6.6 (power), 14 P6.7 (power), 15 P1.7/A2+, 16 P1.6/A2-, 17 P1.5/TACLK/ACLK/A3+, 18 P1.4/A3-/DAC0, 19 P1.3/TA2/A4+, 20 P1.2/TA1/A4-, 21 P1.1/TA0/MCLK, 22 P1.0/TA0, 23 LCDREF/R13, 24 LCDCAP/R23, 25 P5.1/S0, 26 P5.0/S1, 27 P5.5/S2, 28 P5.6/S3, 29 P5.7/S4, 30 S5, 31 P2.7/S6, 32 P2.6/S7, 33 P2.5/S8, 34 P2.4/S9, 35 P2.3/S10, 36 P2.2/S11, 37 P2.1/S12, 38 P2.0/S13, 39 COM0, 40 P5.2/COM1, 41 P5.3/COM2, 42 P5.4/COM3, 43 TDO/TDI, 44 TDI/TCLK (power), 45 TMS (power), 46 TCK (power), 47 ~{RST}/NMI (power), 48 DVcc (power)

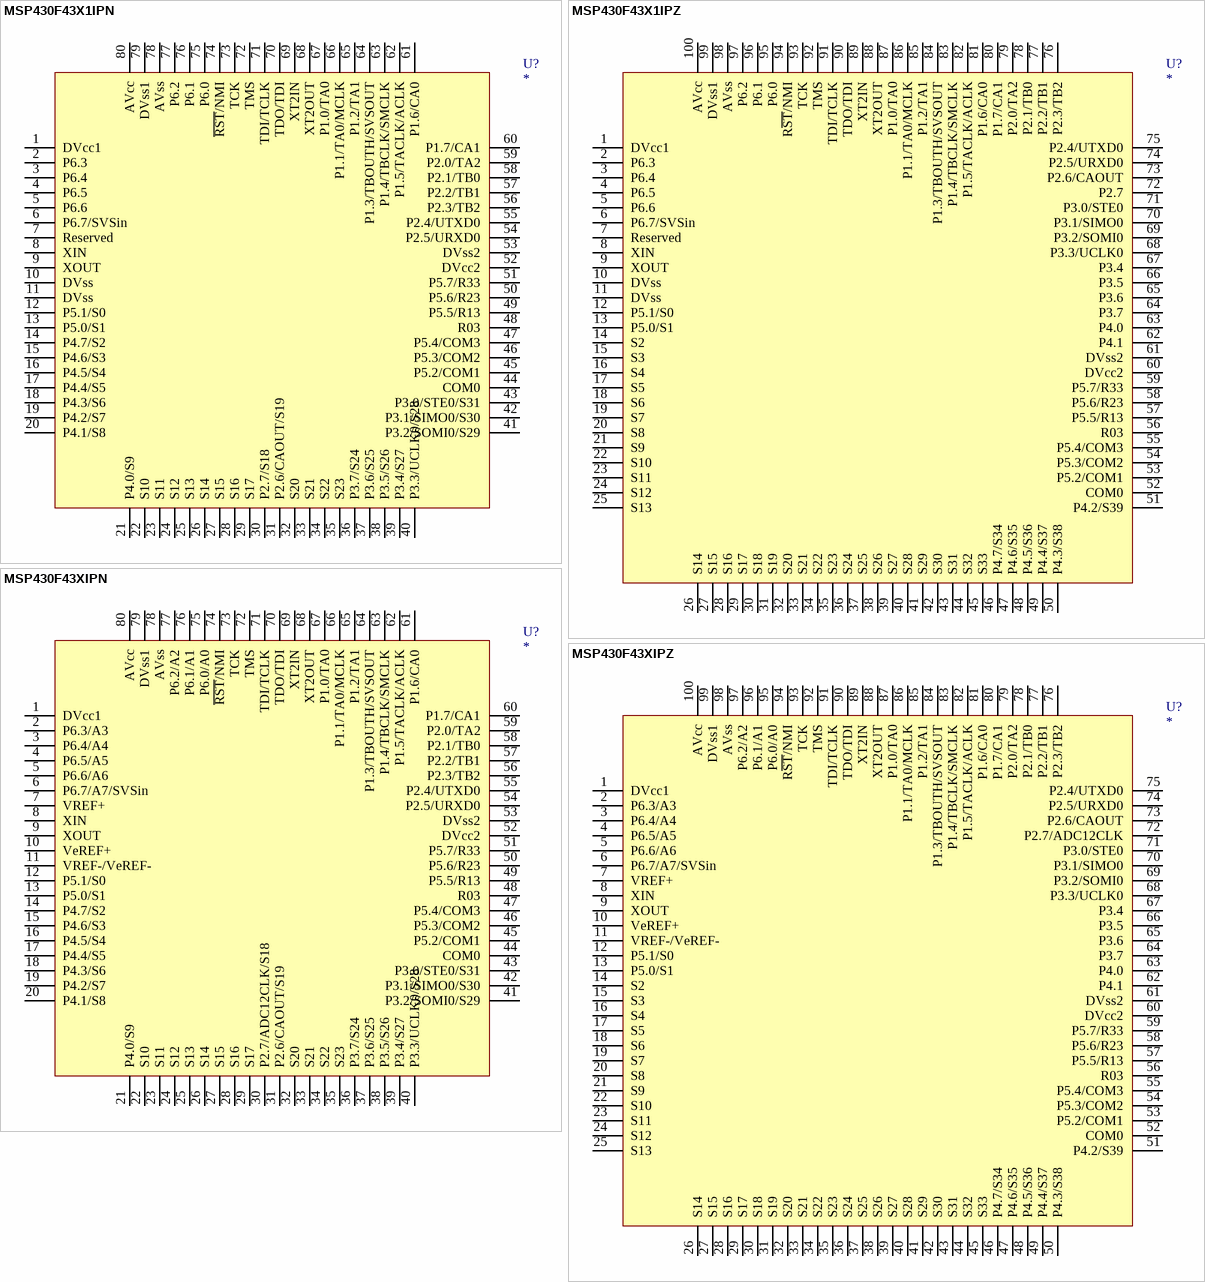
[diagram p18: symbols MSP430F43X1IPN to MSP430F43XIPZ]

## MSP430F43X1IPN
designator U?
footprint S-PQFP-G80
pins: 1 DVcc1 (power), 2 P6.3 (power), 3 P6.4 (power), 4 P6.5 (power), 5 P6.6 (power), 6 P6.7/SVSin (power), 7 Reserved (power), 8 XIN (power), 9 XOUT (power), 10 DVss (power), 11 DVss (power), 12 P5.1/S0 (power), 13 P5.0/S1 (power), 14 P4.7/S2 (power), 15 P4.6/S3 (power), 16 P4.5/S4 (power), 17 P4.4/S5 (power), 18 P4.3/S6 (power), 19 P4.2/S7 (power), 20 P4.1/S8 (power), 21 P4.0/S9 (power), 22 S10 (power), 23 S11 (power), 24 S12 (power), 25 S13 (power), 26 S14 (power), 27 S15 (power), 28 S16 (power), 29 S17 (power), 30 P2.7/S18 (power), 31 P2.6/CAOUT/S19 (power), 32 S20 (power), 33 S21 (power), 34 S22 (power), 35 S23 (power), 36 P3.7/S24 (power), 37 P3.6/S25 (power), 38 P3.5/S26 (power), 39 P3.4/S27 (power), 40 P3.3/UCLK0/S28 (power), 41 P3.2/SOMI0/S29 (power), 42 P3.1/SIMO0/S30 (power), 43 P3.0/STE0/S31 (power), 44 COM0 (power), 45 P5.2/COM1 (power), 46 P5.3/COM2 (power), 47 P5.4/COM3 (power), 48 R03 (power), 49 P5.5/R13 (power), 50 P5.6/R23 (power), 51 P5.7/R33 (power), 52 DVcc2 (power), 53 DVss2 (power), 54 P2.5/URXD0 (power), 55 P2.4/UTXD0 (power), 56 P2.3/TB2 (power), 57 P2.2/TB1 (power), 58 P2.1/TB0 (power), 59 P2.0/TA2 (power), 60 P1.7/CA1 (power), 61 P1.6/CA0 (power), 62 P1.5/TACLK/ACLK (power), 63 P1.4/TBCLK/SMCLK (power), 64 P1.3/TBOUTH/SVSOUT (power), 65 P1.2/TA1, 66 P1.1/TA0/MCLK, 67 P1.0/TA0, 68 XT2OUT, 69 XT2IN, 70 TDO/TDI, 71 TDI/TCLK, 72 TMS, 73 TCK, 74 ~{RST}/NMI, 75 P6.0, 76 P6.1, 77 P6.2, 78 AVss, 79 DVss1, 80 AVcc

## MSP430F43X1IPZ
designator U?
footprint S-PQFP-G100
pins: 1 DVcc1 (power), 2 P6.3 (power), 3 P6.4 (power), 4 P6.5 (power), 5 P6.6 (power), 6 P6.7/SVSin (power), 7 Reserved (power), 8 XIN (power), 9 XOUT (power), 10 DVss (power), 11 DVss (power), 12 P5.1/S0 (power), 13 P5.0/S1 (power), 14 S2 (power), 15 S3 (power), 16 S4 (power), 17 S5 (power), 18 S6 (power), 19 S7 (power), 20 S8 (power), 21 S9 (power), 22 S10 (power), 23 S11 (power), 24 S12 (power), 25 S13 (power), 26 S14 (power), 27 S15 (power), 28 S16 (power), 29 S17 (power), 30 S18 (power), 31 S19 (power), 32 S20 (power), 33 S21 (power), 34 S22 (power), 35 S23 (power), 36 S24 (power), 37 S25 (power), 38 S26 (power), 39 S27 (power), 40 S28 (power), 41 S29 (power), 42 S30 (power), 43 S31 (power), 44 S32 (power), 45 S33 (power), 46 P4.7/S34 (power), 47 P4.6/S35 (power), 48 P4.5/S36 (power), 49 P4.4/S37 (power), 50 P4.3/S38 (power), 51 P4.2/S39 (power), 52 COM0 (power), 53 P5.2/COM1 (power), 54 P5.3/COM2 (power), 55 P5.4/COM3 (power), 56 R03 (power), 57 P5.5/R13 (power), 58 P5.6/R23 (power), 59 P5.7/R33 (power), 60 DVcc2 (power), 61 DVss2 (power), 62 P4.1 (power), 63 P4.0 (power), 64 P3.7 (power), 65 P3.6, 66 P3.5, 67 P3.4, 68 P3.3/UCLK0, 69 P3.2/SOMI0, 70 P3.1/SIMO0, 71 P3.0/STE0, 72 P2.7, 73 P2.6/CAOUT, 74 P2.5/URXD0, 75 P2.4/UTXD0, 76 P2.3/TB2, 77 P2.2/TB1, 78 P2.1/TB0, 79 P2.0/TA2, 80 P1.7/CA1, 81 P1.6/CA0, 82 P1.5/TACLK/ACLK, 83 P1.4/TBCLK/SMCLK, 84 P1.3/TBOUTH/SVSOUT, 85 P1.2/TA1, 86 P1.1/TA0/MCLK, 87 P1.0/TA0, 88 XT2OUT, 89 XT2IN, 90 TDO/TDI, 91 TDI/TCLK, 92 TMS, 93 TCK, 94 R~{ST}/NMI, 95 P6.0, 96 P6.1, 97 P6.2, 98 AVss, 99 DVss1, 100 AVcc

## MSP430F43XIPN
designator U?
footprint S-PQFP-G80
pins: 1 DVcc1 (power), 2 P6.3/A3 (power), 3 P6.4/A4 (power), 4 P6.5/A5 (power), 5 P6.6/A6 (power), 6 P6.7/A7/SVSin (power), 7 VREF+ (power), 8 XIN (power), 9 XOUT (power), 10 VeREF+ (power), 11 VREF-/VeREF- (power), 12 P5.1/S0 (power), 13 P5.0/S1 (power), 14 P4.7/S2 (power), 15 P4.6/S3 (power), 16 P4.5/S4 (power), 17 P4.4/S5 (power), 18 P4.3/S6 (power), 19 P4.2/S7 (power), 20 P4.1/S8 (power), 21 P4.0/S9 (power), 22 S10 (power), 23 S11 (power), 24 S12 (power), 25 S13 (power), 26 S14 (power), 27 S15 (power), 28 S16 (power), 29 S17 (power), 30 P2.7/ADC12CLK/S18 (power), 31 P2.6/CAOUT/S19 (power), 32 S20 (power), 33 S21 (power), 34 S22 (power), 35 S23 (power), 36 P3.7/S24 (power), 37 P3.6/S25 (power), 38 P3.5/S26 (power), 39 P3.4/S27 (power), 40 P3.3/UCLK0/S28 (power), 41 P3.2/SOMI0/S29 (power), 42 P3.1/SIMO0/S30 (power), 43 P3.0/STE0/S31 (power), 44 COM0 (power), 45 P5.2/COM1 (power), 46 P5.3/COM2 (power), 47 P5.4/COM3 (power), 48 R03 (power), 49 P5.5/R13 (power), 50 P5.6/R23 (power), 51 P5.7/R33 (power), 52 DVcc2 (power), 53 DVss2 (power), 54 P2.5/URXD0 (power), 55 P2.4/UTXD0 (power), 56 P2.3/TB2 (power), 57 P2.2/TB1 (power), 58 P2.1/TB0 (power), 59 P2.0/TA2 (power), 60 P1.7/CA1 (power), 61 P1.6/CA0 (power), 62 P1.5/TACLK/ACLK (power), 63 P1.4/TBCLK/SMCLK (power), 64 P1.3/TBOUTH/SVSOUT (power), 65 P1.2/TA1, 66 P1.1/TA0/MCLK, 67 P1.0/TA0, 68 XT2OUT, 69 XT2IN, 70 TDO/TDI, 71 TDI/TCLK, 72 TMS, 73 TCK, 74 ~{RST}/NMI, 75 P6.0/A0, 76 P6.1/A1, 77 P6.2/A2, 78 AVss, 79 DVss1, 80 AVcc

## MSP430F43XIPZ
designator U?
footprint S-PQFP-G100
pins: 1 DVcc1 (power), 2 P6.3/A3 (power), 3 P6.4/A4 (power), 4 P6.5/A5 (power), 5 P6.6/A6 (power), 6 P6.7/A7/SVSin (power), 7 VREF+ (power), 8 XIN (power), 9 XOUT (power), 10 VeREF+ (power), 11 VREF-/VeREF- (power), 12 P5.1/S0 (power), 13 P5.0/S1 (power), 14 S2 (power), 15 S3 (power), 16 S4 (power), 17 S5 (power), 18 S6 (power), 19 S7 (power), 20 S8 (power), 21 S9 (power), 22 S10 (power), 23 S11 (power), 24 S12 (power), 25 S13 (power), 26 S14 (power), 27 S15 (power), 28 S16 (power), 29 S17 (power), 30 S18 (power), 31 S19 (power), 32 S20 (power), 33 S21 (power), 34 S22 (power), 35 S23 (power), 36 S24 (power), 37 S25 (power), 38 S26 (power), 39 S27 (power), 40 S28 (power), 41 S29 (power), 42 S30 (power), 43 S31 (power), 44 S32 (power), 45 S33 (power), 46 P4.7/S34 (power), 47 P4.6/S35 (power), 48 P4.5/S36 (power), 49 P4.4/S37 (power), 50 P4.3/S38 (power), 51 P4.2/S39 (power), 52 COM0 (power), 53 P5.2/COM1 (power), 54 P5.3/COM2 (power), 55 P5.4/COM3 (power), 56 R03 (power), 57 P5.5/R13 (power), 58 P5.6/R23 (power), 59 P5.7/R33 (power), 60 DVcc2 (power), 61 DVss2 (power), 62 P4.1 (power), 63 P4.0 (power), 64 P3.7 (power), 65 P3.6, 66 P3.5, 67 P3.4, 68 P3.3/UCLK0, 69 P3.2/SOMI0, 70 P3.1/SIMO0, 71 P3.0/STE0, 72 P2.7/ADC12CLK, 73 P2.6/CAOUT, 74 P2.5/URXD0, 75 P2.4/UTXD0, 76 P2.3/TB2, 77 P2.2/TB1, 78 P2.1/TB0, 79 P2.0/TA2, 80 P1.7/CA1, 81 P1.6/CA0, 82 P1.5/TACLK/ACLK, 83 P1.4/TBCLK/SMCLK, 84 P1.3/TBOUTH/SVSOUT, 85 P1.2/TA1, 86 P1.1/TA0/MCLK, 87 P1.0/TA0, 88 XT2OUT, 89 XT2IN, 90 TDO/TDI, 91 TDI/TCLK, 92 TMS, 93 TCK, 94 R~{ST}/NMI, 95 P6.0/A0, 96 P6.1/A1, 97 P6.2/A2, 98 AVss, 99 DVss1, 100 AVcc

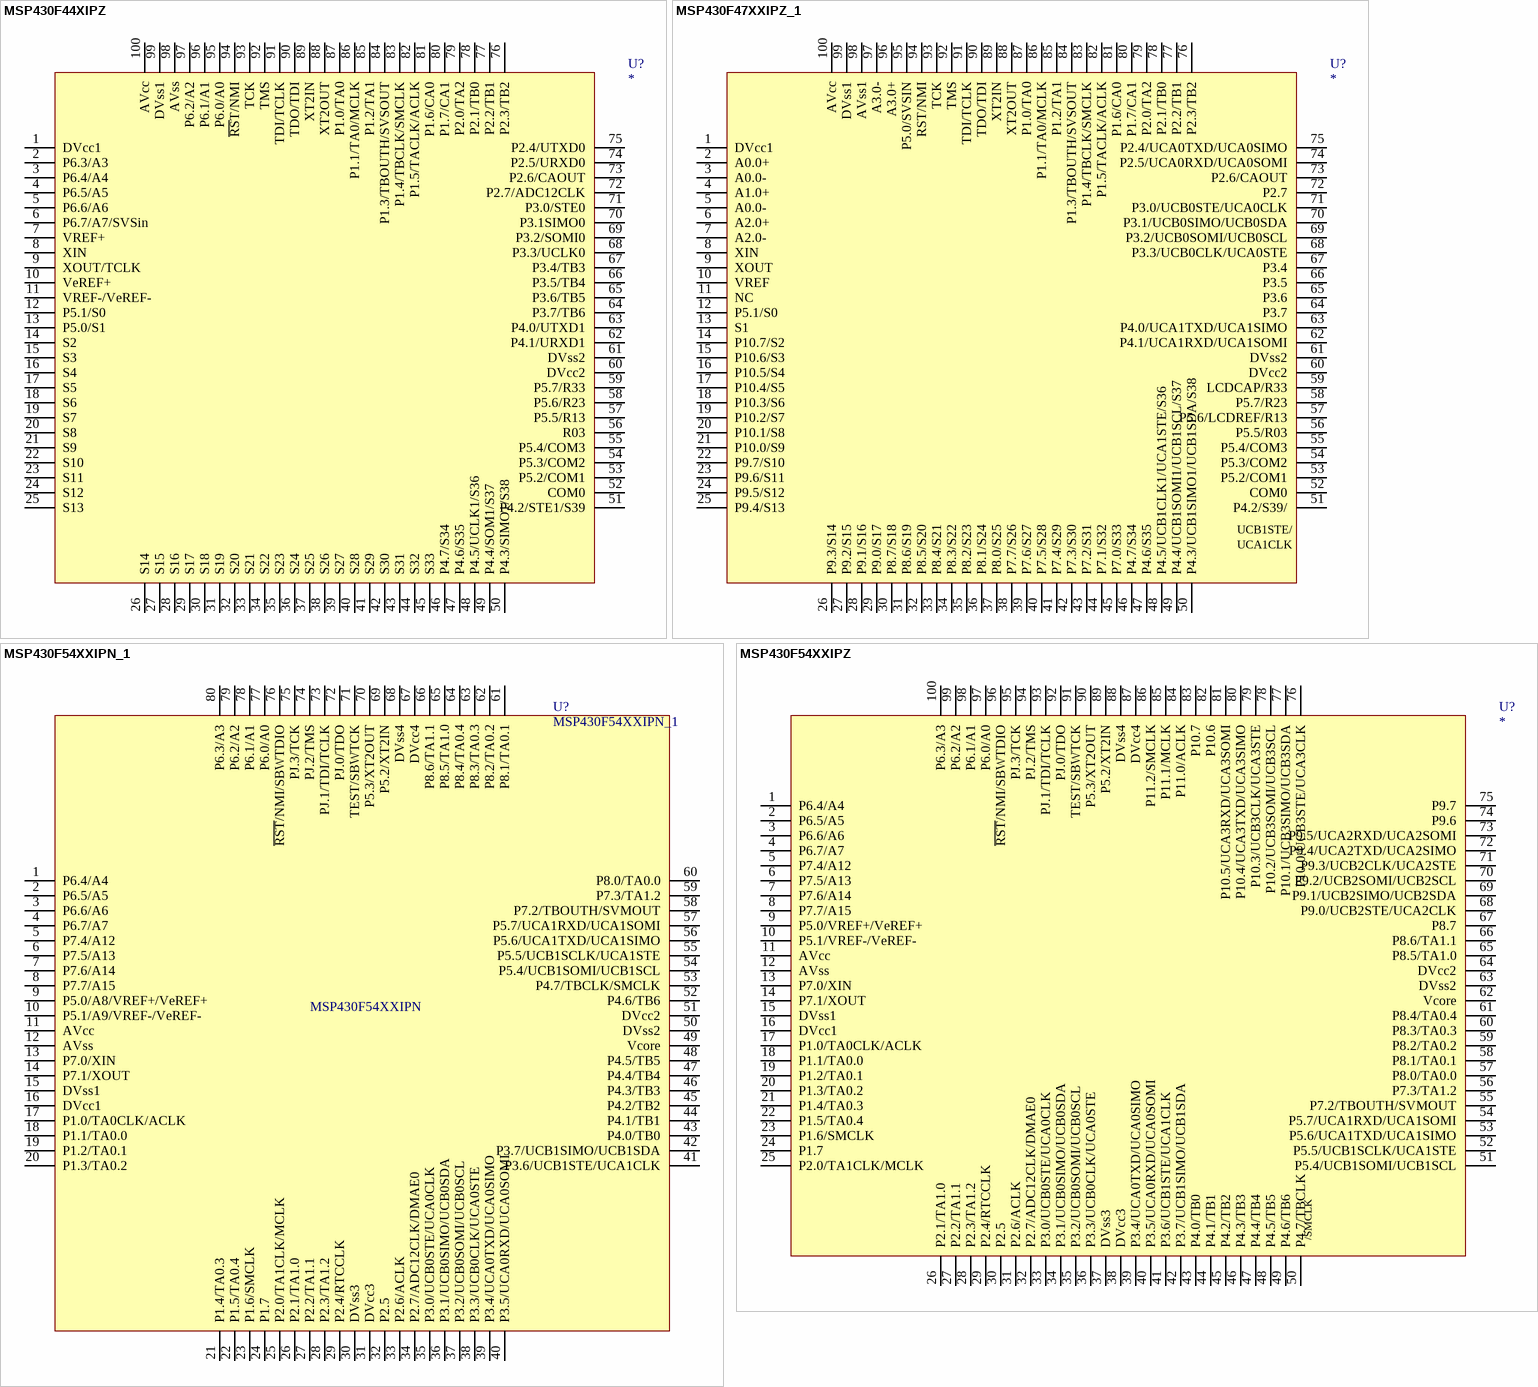
[diagram p19: symbols MSP430F44XIPZ to MSP430F54XXIPZ]

## MSP430F44XIPZ
designator U?
footprint S-PQFP-G100
pins: 1 DVcc1, 2 P6.3/A3, 3 P6.4/A4, 4 P6.5/A5, 5 P6.6/A6, 6 P6.7/A7/SVSin, 7 VREF+, 8 XIN, 9 XOUT/TCLK, 10 VeREF+, 11 VREF-/VeREF-, 12 P5.1/S0, 13 P5.0/S1, 14 S2, 15 S3, 16 S4, 17 S5, 18 S6, 19 S7, 20 S8, 21 S9, 22 S10, 23 S11, 24 S12, 25 S13, 26 S14, 27 S15, 28 S16, 29 S17, 30 S18, 31 S19, 32 S20, 33 S21, 34 S22, 35 S23, 36 S24, 37 S25, 38 S26, 39 S27, 40 S28, 41 S29, 42 S30, 43 S31, 44 S32, 45 S33, 46 P4.7/S34, 47 P4.6/S35, 48 P4.5/UCLK1/S36, 49 P4.4/SOM1/S37, 50 P4.3/SIMO1/S38, 51 P4.2/STE1/S39, 52 COM0, 53 P5.2/COM1, 54 P5.3/COM2, 55 P5.4/COM3, 56 R03, 57 P5.5/R13, 58 P5.6/R23, 59 P5.7/R33, 60 DVcc2, 61 DVss2, 62 P4.1/URXD1, 63 P4.0/UTXD1, 64 P3.7/TB6, 65 P3.6/TB5, 66 P3.5/TB4, 67 P3.4/TB3, 68 P3.3/UCLK0, 69 P3.2/SOMI0, 70 P3.1SIMO0, 71 P3.0/STE0, 72 P2.7/ADC12CLK, 73 P2.6/CAOUT, 74 P2.5/URXD0, 75 P2.4/UTXD0, 76 P2.3/TB2, 77 P2.2/TB1, 78 P2.1/TB0, 79 P2.0/TA2, 80 P1.7/CA1, 81 P1.6/CA0, 82 P1.5/TACLK/ACLK, 83 P1.4/TBCLK/SMCLK, 84 P1.3/TBOUTH/SVSOUT, 85 P1.2/TA1, 86 P1.1/TA0/MCLK, 87 P1.0/TA0, 88 XT2OUT, 89 XT2IN, 90 TDO/TDI, 91 TDI/TCLK, 92 TMS, 93 TCK, 94 ~{RS}T/NMI, 95 P6.0/A0, 96 P6.1/A1, 97 P6.2/A2, 98 AVss, 99 DVss1, 100 AVcc

## MSP430F47XXIPZ_1
designator U?
footprint S-PQFP-G100
pins: 1 DVcc1, 2 A0.0+, 3 A0.0-, 4 A1.0+, 5 A0.0-, 6 A2.0+, 7 A2.0-, 8 XIN, 9 XOUT, 10 VREF, 11 NC, 12 P5.1/S0, 13 S1, 14 P10.7/S2, 15 P10.6/S3, 16 P10.5/S4, 17 P10.4/S5, 18 P10.3/S6, 19 P10.2/S7, 20 P10.1/S8, 21 P10.0/S9, 22 P9.7/S10, 23 P9.6/S11, 24 P9.5/S12, 25 P9.4/S13, 26 P9.3/S14, 27 P9.2/S15, 28 P9.1/S16, 29 P9.0/S17, 30 P8.7/S18, 31 P8.6/S19, 32 P8.5/S20, 33 P8.4/S21, 34 P8.3/S22, 35 P8.2/S23, 36 P8.1/S24, 37 P8.0/S25, 38 P7.7/S26, 39 P7.6/S27, 40 P7.5/S28, 41 P7.4/S29, 42 P7.3/S30, 43 P7.2/S31, 44 P7.1/S32, 45 P7.0/S33, 46 P4.7/S34, 47 P4.6/S35, 48 P4.5/UCB1CLK1/UCA1STE/S36, 49 P4.4/UCB1SOMI1/UCB1SCL/S37, 50 P4.3/UCB1SIMO1/UCB1SDA/S38, 51 P4.2/S39/, 52 COM0, 53 P5.2/COM1, 54 P5.3/COM2, 55 P5.4/COM3, 56 P5.5/R03, 57 P5.6/LCDREF/R13, 58 P5.7/R23, 59 LCDCAP/R33, 60 DVcc2, 61 DVss2, 62 P4.1/UCA1RXD/UCA1SOMI, 63 P4.0/UCA1TXD/UCA1SIMO, 64 P3.7, 65 P3.6, 66 P3.5, 67 P3.4, 68 P3.3/UCB0CLK/UCA0STE, 69 P3.2/UCB0SOMI/UCB0SCL, 70 P3.1/UCB0SIMO/UCB0SDA, 71 P3.0/UCB0STE/UCA0CLK, 72 P2.7, 73 P2.6/CAOUT, 74 P2.5/UCA0RXD/UCA0SOMI, 75 P2.4/UCA0TXD/UCA0SIMO, 76 P2.3/TB2, 77 P2.2/TB1, 78 P2.1/TB0, 79 P2.0/TA2, 80 P1.7/CA1, 81 P1.6/CA0, 82 P1.5/TACLK/ACLK, 83 P1.4/TBCLK/SMCLK, 84 P1.3/TBOUTH/SVSOUT, 85 P1.2/TA1, 86 P1.1/TA0/MCLK, 87 P1.0/TA0, 88 XT2OUT, 89 XT2IN, 90 TDO/TDI, 91 TDI/TCLK, 92 TMS, 93 TCK, 94 RST/NMI, 95 P5.0/SVSIN, 96 A3.0+, 97 A3.0-, 98 AVss1, 99 DVss1, 100 AVcc
text: UCB1STE/; UCA1CLK

## MSP430F54XXIPN_1
designator U?
footprint S-PQFP-G80
pins: 1 P6.4/A4, 2 P6.5/A5, 3 P6.6/A6, 4 P6.7/A7, 5 P7.4/A12, 6 P7.5/A13, 7 P7.6/A14, 8 P7.7/A15, 9 P5.0/A8/VREF+/VeREF+, 10 P5.1/A9/VREF-/VeREF-, 11 AVcc, 12 AVss, 13 P7.0/XIN, 14 P7.1/XOUT, 15 DVss1, 16 DVcc1, 17 P1.0/TA0CLK/ACLK, 18 P1.1/TA0.0, 19 P1.2/TA0.1, 20 P1.3/TA0.2, 21 P1.4/TA0.3, 22 P1.5/TA0.4, 23 P1.6/SMCLK, 24 P1.7, 25 P2.0/TA1CLK/MCLK, 26 P2.1/TA1.0, 27 P2.2/TA1.1, 28 P2.3/TA1.2, 29 P2.4/RTCCLK, 30 DVss3, 31 DVcc3, 32 P2.5, 33 P2.6/ACLK, 34 P2.7/ADC12CLK/DMAE0, 35 P3.0/UCB0STE/UCA0CLK, 36 P3.1/UCB0SIMO/UCB0SDA, 37 P3.2/UCB0SOMI/UCB0SCL, 38 P3.3/UCB0CLK/UCA0STE, 39 P3.4/UCA0TXD/UCA0SIMO, 40 P3.5/UCA0RXD/UCA0SOMI, 41 P3.6/UCB1STE/UCA1CLK, 42 P3.7/UCB1SIMO/UCB1SDA, 43 P4.0/TB0, 44 P4.1/TB1, 45 P4.2/TB2, 46 P4.3/TB3, 47 P4.4/TB4, 48 P4.5/TB5, 49 Vcore, 50 DVss2, 51 DVcc2, 52 P4.6/TB6, 53 P4.7/TBCLK/SMCLK, 54 P5.4/UCB1SOMI/UCB1SCL, 55 P5.5/UCB1SCLK/UCA1STE, 56 P5.6/UCA1TXD/UCA1SIMO, 57 P5.7/UCA1RXD/UCA1SOMI, 58 P7.2/TBOUTH/SVMOUT, 59 P7.3/TA1.2, 60 P8.0/TA0.0, 61 P8.1/TA0.1, 62 P8.2/TA0.2, 63 P8.3/TA0.3, 64 P8.4/TA0.4, 65 P8.5/TA1.0, 66 P8.6/TA1.1, 67 DVcc4, 68 DVss4, 69 P5.2/XT2IN, 70 P5.3/XT2OUT, 71 TEST/SBWTCK, 72 PJ.0/TDO, 73 PJ.1/TDI/TCLK, 74 PJ.2/TMS, 75 PJ.3/TCK, 76 ~{RST}/NMI/SBWTDIO, 77 P6.0/A0, 78 P6.1/A1, 79 P6.2/A2, 80 P6.3/A3
text: MSP430F54XXIPN

## MSP430F54XXIPZ
designator U?
footprint S-PQFP-G100
pins: 1 P6.4/A4, 2 P6.5/A5, 3 P6.6/A6, 4 P6.7/A7, 5 P7.4/A12, 6 P7.5/A13, 7 P7.6/A14, 8 P7.7/A15, 9 P5.0/VREF+/VeREF+, 10 P5.1/VREF-/VeREF-, 11 AVcc, 12 AVss, 13 P7.0/XIN, 14 P7.1/XOUT, 15 DVss1, 16 DVcc1, 17 P1.0/TA0CLK/ACLK, 18 P1.1/TA0.0, 19 P1.2/TA0.1, 20 P1.3/TA0.2, 21 P1.4/TA0.3, 22 P1.5/TA0.4, 23 P1.6/SMCLK, 24 P1.7, 25 P2.0/TA1CLK/MCLK, 26 P2.1/TA1.0, 27 P2.2/TA1.1, 28 P2.3/TA1.2, 29 P2.4/RTCCLK, 30 P2.5, 31 P2.6/ACLK, 32 P2.7/ADC12CLK/DMAE0, 33 P3.0/UCB0STE/UCA0CLK, 34 P3.1/UCB0SIMO/UCB0SDA, 35 P3.2/UCB0SOMI/UCB0SCL, 36 P3.3/UCB0CLK/UCA0STE, 37 DVss3, 38 DVcc3, 39 P3.4/UCA0TXD/UCA0SIMO, 40 P3.5/UCA0RXD/UCA0SOMI, 41 P3.6/UCB1STE/UCA1CLK, 42 P3.7/UCB1SIMO/UCB1SDA, 43 P4.0/TB0, 44 P4.1/TB1, 45 P4.2/TB2, 46 P4.3/TB3, 47 P4.4/TB4, 48 P4.5/TB5, 49 P4.6/TB6, 50 P4.7/TBCLK, 51 P5.4/UCB1SOMI/UCB1SCL, 52 P5.5/UCB1SCLK/UCA1STE, 53 P5.6/UCA1TXD/UCA1SIMO, 54 P5.7/UCA1RXD/UCA1SOMI, 55 P7.2/TBOUTH/SVMOUT, 56 P7.3/TA1.2, 57 P8.0/TA0.0, 58 P8.1/TA0.1, 59 P8.2/TA0.2, 60 P8.3/TA0.3, 61 P8.4/TA0.4, 62 Vcore, 63 DVss2, 64 DVcc2, 65 P8.5/TA1.0, 66 P8.6/TA1.1, 67 P8.7, 68 P9.0/UCB2STE/UCA2CLK, 69 P9.1/UCB2SIMO/UCB2SDA, 70 P9.2/UCB2SOMI/UCB2SCL, 71 P9.3/UCB2CLK/UCA2STE, 72 P9.4/UCA2TXD/UCA2SIMO, 73 P9.5/UCA2RXD/UCA2SOMI, 74 P9.6, 75 P9.7, 76 P10.0/UCB3STE/UCA3CLK, 77 P10.1/UCB3SIMO/UCB3SDA, 78 P10.2/UCB3SOMI/UCB3SCL, 79 P10.3/UCB3CLK/UCA3STE, 80 P10.4/UCA3TXD/UCA3SIMO, 81 P10.5/UCA3RXD/UCA3SOMI, 82 P10.6, 83 P10.7, 84 P11.0/ACLK, 85 P11.1/MCLK, 86 P11.2/SMCLK, 87 DVcc4, 88 DVss4, 89 P5.2/XT2IN, 90 P5.3/XT2OUT, 91 TEST/SBWTCK, 92 PJ.0/TDO, 93 PJ.1/TDI/TCLK, 94 PJ.2/TMS, 95 PJ.3/TCK, 96 ~{RST}/NMI/SBWTDIO, 97 P6.0/A0, 98 P6.1/A1, 99 P6.2/A2, 100 P6.3/A3
text: /SMCLK

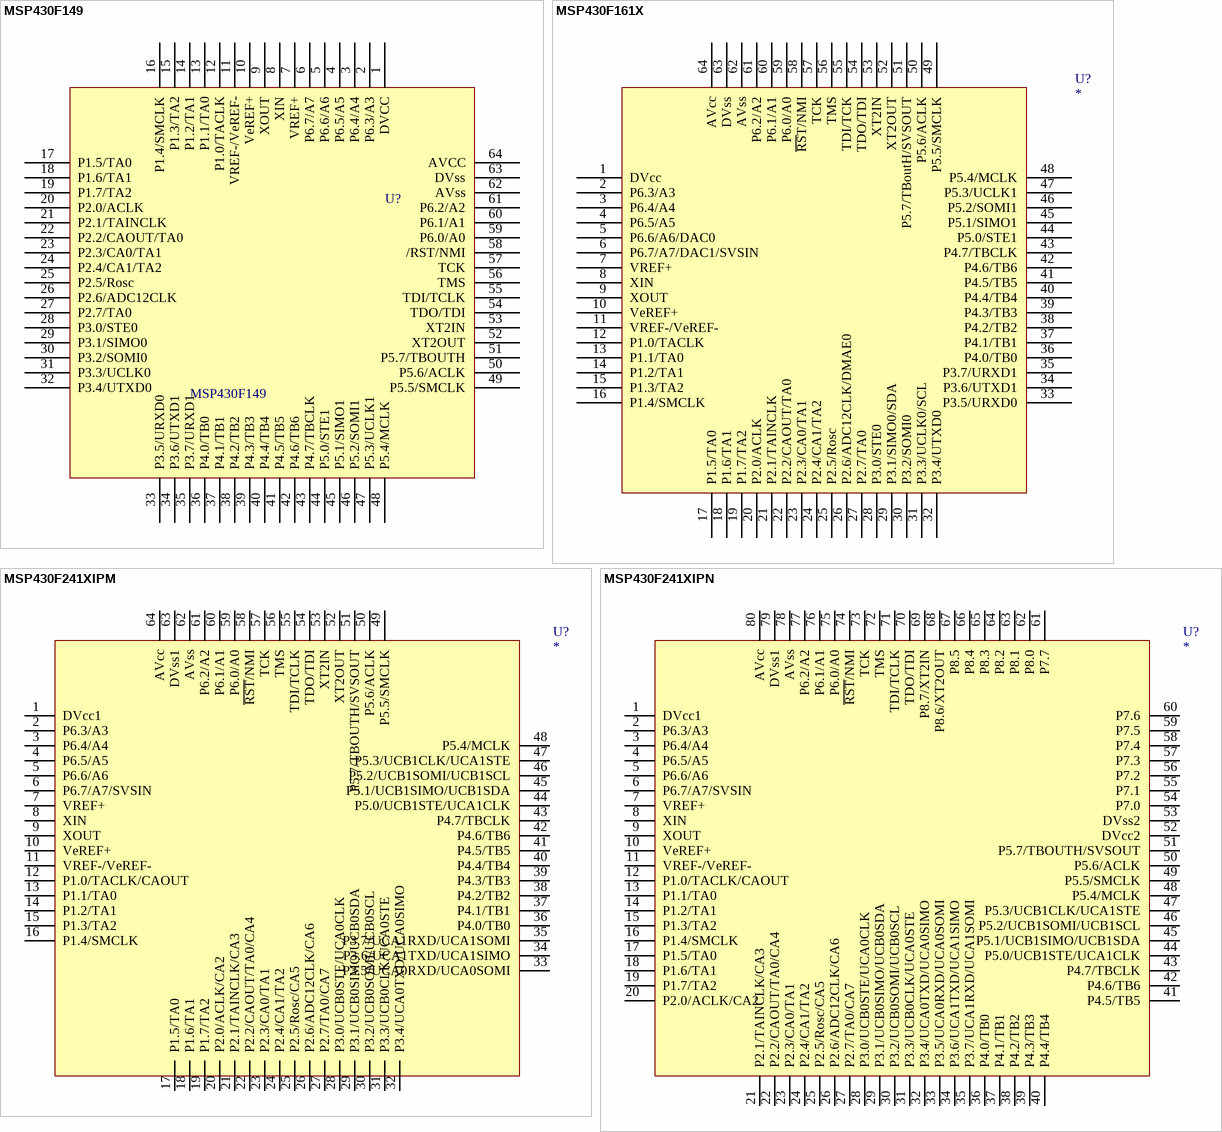
[diagram p20: symbols MSP430F149 to MSP430F241XIPN]

## MSP430F149
designator U?
footprint QFP64
pins: 1 DVCC, 2 P6.3/A3, 3 P6.4/A4, 4 P6.5/A5, 5 P6.6/A6, 6 P6.7/A7, 7 VREF+, 8 XIN, 9 XOUT, 10 VeREF+, 11 VREF-/VeREF-, 12 P1.0/TACLK, 13 P1.1/TA0, 14 P1.2/TA1, 15 P1.3/TA2, 16 P1.4/SMCLK, 17 P1.5/TA0, 18 P1.6/TA1, 19 P1.7/TA2, 20 P2.0/ACLK, 21 P2.1/TAINCLK, 22 P2.2/CAOUT/TA0, 23 P2.3/CA0/TA1, 24 P2.4/CA1/TA2, 25 P2.5/Rosc, 26 P2.6/ADC12CLK, 27 P2.7/TA0, 28 P3.0/STE0, 29 P3.1/SIMO0, 30 P3.2/SOMI0, 31 P3.3/UCLK0, 32 P3.4/UTXD0, 33 P3.5/URXD0, 34 P3.6/UTXD1, 35 P3.7/URXD1, 36 P4.0/TB0, 37 P4.1/TB1, 38 P4.2/TB2, 39 P4.3/TB3, 40 P4.4/TB4, 41 P4.5/TB5, 42 P4.6/TB6, 43 P4.7/TBCLK, 44 P5.0/STE1, 45 P5.1/SIMO1, 46 P5.2/SOMI1, 47 P5.3/UCLK1, 48 P5.4/MCLK, 49 P5.5/SMCLK, 50 P5.6/ACLK, 51 P5.7/TBOUTH, 52 XT2OUT, 53 XT2IN, 54 TDO/TDI, 55 TDI/TCLK, 56 TMS, 57 TCK, 58 /RST/NMI, 59 P6.0/A0, 60 P6.1/A1, 61 P6.2/A2, 62 AVss, 63 DVss, 64 AVCC

## MSP430F161X
designator U?
footprint S-PQFP-G64
footprint QFN64
pins: 1 DVcc (power), 2 P6.3/A3 (power), 3 P6.4/A4 (power), 4 P6.5/A5 (power), 5 P6.6/A6/DAC0 (power), 6 P6.7/A7/DAC1/SVSIN (power), 7 VREF+ (power), 8 XIN (power), 9 XOUT (power), 10 VeREF+ (power), 11 VREF-/VeREF- (power), 12 P1.0/TACLK (power), 13 P1.1/TA0 (power), 14 P1.2/TA1 (power), 15 P1.3/TA2 (power), 16 P1.4/SMCLK (power), 17 P1.5/TA0 (power), 18 P1.6/TA1 (power), 19 P1.7/TA2 (power), 20 P2.0/ACLK (power), 21 P2.1/TAINCLK (power), 22 P2.2/CAOUT/TA0 (power), 23 P2.3/CA0/TA1 (power), 24 P2.4/CA1/TA2 (power), 25 P2.5/Rosc (power), 26 P2.6/ADC12CLK/DMAE0 (power), 27 P2.7/TA0 (power), 28 P3.0/STE0 (power), 29 P3.1/SIMO0/SDA (power), 30 P3.2/SOMI0 (power), 31 P3.3/UCLK0/SCL (power), 32 P3.4/UTXD0 (power), 33 P3.5/URXD0 (power), 34 P3.6/UTXD1 (power), 35 P3.7/URXD1 (power), 36 P4.0/TB0 (power), 37 P4.1/TB1 (power), 38 P4.2/TB2 (power), 39 P4.3/TB3 (power), 40 P4.4/TB4 (power), 41 P4.5/TB5 (power), 42 P4.6/TB6 (power), 43 P4.7/TBCLK (power), 44 P5.0/STE1 (power), 45 P5.1/SIMO1 (power), 46 P5.2/SOMI1 (power), 47 P5.3/UCLK1 (power), 48 P5.4/MCLK (power), 49 P5.5/SMCLK (power), 50 P5.6/ACLK (power), 51 P5.7/TBoutH/SVSOUT (power), 52 XT2OUT (power), 53 XT2IN (power), 54 TDO/TDI (power), 55 TDI/TCK (power), 56 TMS (power), 57 TCK (power), 58 ~{RS}T/NMI (power), 59 P6.0/A0 (power), 60 P6.1/A1 (power), 61 P6.2/A2 (power), 62 AVss (power), 63 DVss (power), 64 AVcc (power)

## MSP430F241XIPM
designator U?
footprint S-PQFP-G64
pins: 1 DVcc1, 2 P6.3/A3, 3 P6.4/A4, 4 P6.5/A5, 5 P6.6/A6, 6 P6.7/A7/SVSIN, 7 VREF+, 8 XIN, 9 XOUT, 10 VeREF+, 11 VREF-/VeREF-, 12 P1.0/TACLK/CAOUT, 13 P1.1/TA0, 14 P1.2/TA1, 15 P1.3/TA2, 16 P1.4/SMCLK, 17 P1.5/TA0, 18 P1.6/TA1, 19 P1.7/TA2, 20 P2.0/ACLK/CA2, 21 P2.1/TAINCLK/CA3, 22 P2.2/CAOUT/TA0/CA4, 23 P2.3/CA0/TA1, 24 P2.4/CA1/TA2, 25 P2.5/Rosc/CA5, 26 P2.6/ADC12CLK/CA6, 27 P2.7/TA0/CA7, 28 P3.0/UCB0STE/UCA0CLK, 29 P3.1/UCB0SIMO/UCB0SDA, 30 P3.2/UCB0SOMI/UCB0SCL, 31 P3.3/UCB0CLK/UCA0STE, 32 P3.4/UCA0TXD/UCA0SIMO, 33 P3.5/UCA0RXD/UCA0SOMI, 34 P3.6/UCA1TXD/UCA1SIMO, 35 P3.7/UCA1RXD/UCA1SOMI, 36 P4.0/TB0, 37 P4.1/TB1, 38 P4.2/TB2, 39 P4.3/TB3, 40 P4.4/TB4, 41 P4.5/TB5, 42 P4.6/TB6, 43 P4.7/TBCLK, 44 P5.0/UCB1STE/UCA1CLK, 45 P5.1/UCB1SIMO/UCB1SDA, 46 P5.2/UCB1SOMI/UCB1SCL, 47 P5.3/UCB1CLK/UCA1STE, 48 P5.4/MCLK, 49 P5.5/SMCLK, 50 P5.6/ACLK, 51 P5.7/TBOUTH/SVSOUT, 52 XT2OUT, 53 XT2IN, 54 TDO/TDI, 55 TDI/TCLK, 56 TMS, 57 TCK, 58 ~{RST}/NMI, 59 P6.0/A0, 60 P6.1/A1, 61 P6.2/A2, 62 AVss, 63 DVss1, 64 AVcc

## MSP430F241XIPN
designator U?
footprint S-PQFP-G80
pins: 1 DVcc1, 2 P6.3/A3, 3 P6.4/A4, 4 P6.5/A5, 5 P6.6/A6, 6 P6.7/A7/SVSIN, 7 VREF+, 8 XIN, 9 XOUT, 10 VeREF+, 11 VREF-/VeREF-, 12 P1.0/TACLK/CAOUT, 13 P1.1/TA0, 14 P1.2/TA1, 15 P1.3/TA2, 16 P1.4/SMCLK, 17 P1.5/TA0, 18 P1.6/TA1, 19 P1.7/TA2, 20 P2.0/ACLK/CA2, 21 P2.1/TAINCLK/CA3, 22 P2.2/CAOUT/TA0/CA4, 23 P2.3/CA0/TA1, 24 P2.4/CA1/TA2, 25 P2.5/Rosc/CA5, 26 P2.6/ADC12CLK/CA6, 27 P2.7/TA0/CA7, 28 P3.0/UCB0STE/UCA0CLK, 29 P3.1/UCB0SIMO/UCB0SDA, 30 P3.2/UCB0SOMI/UCB0SCL, 31 P3.3/UCB0CLK/UCA0STE, 32 P3.4/UCA0TXD/UCA0SIMO, 33 P3.5/UCA0RXD/UCA0SOMI, 34 P3.6/UCA1TXD/UCA1SIMO, 35 P3.7/UCA1RXD/UCA1SOMI, 36 P4.0/TB0, 37 P4.1/TB1, 38 P4.2/TB2, 39 P4.3/TB3, 40 P4.4/TB4, 41 P4.5/TB5, 42 P4.6/TB6, 43 P4.7/TBCLK, 44 P5.0/UCB1STE/UCA1CLK, 45 P5.1/UCB1SIMO/UCB1SDA, 46 P5.2/UCB1SOMI/UCB1SCL, 47 P5.3/UCB1CLK/UCA1STE, 48 P5.4/MCLK, 49 P5.5/SMCLK, 50 P5.6/ACLK, 51 P5.7/TBOUTH/SVSOUT, 52 DVcc2, 53 DVss2, 54 P7.0, 55 P7.1, 56 P7.2, 57 P7.3, 58 P7.4, 59 P7.5, 60 P7.6, 61 P7.7, 62 P8.0, 63 P8.1, 64 P8.2, 65 P8.3, 66 P8.4, 67 P8.5, 68 P8.6/XT2OUT, 69 P8.7/XT2IN, 70 TDO/TDI, 71 TDI/TCLK, 72 TMS, 73 TCK, 74 ~{RST}/NMI, 75 P6.0/A0, 76 P6.1/A1, 77 P6.2/A2, 78 AVss, 79 DVss1, 80 AVcc

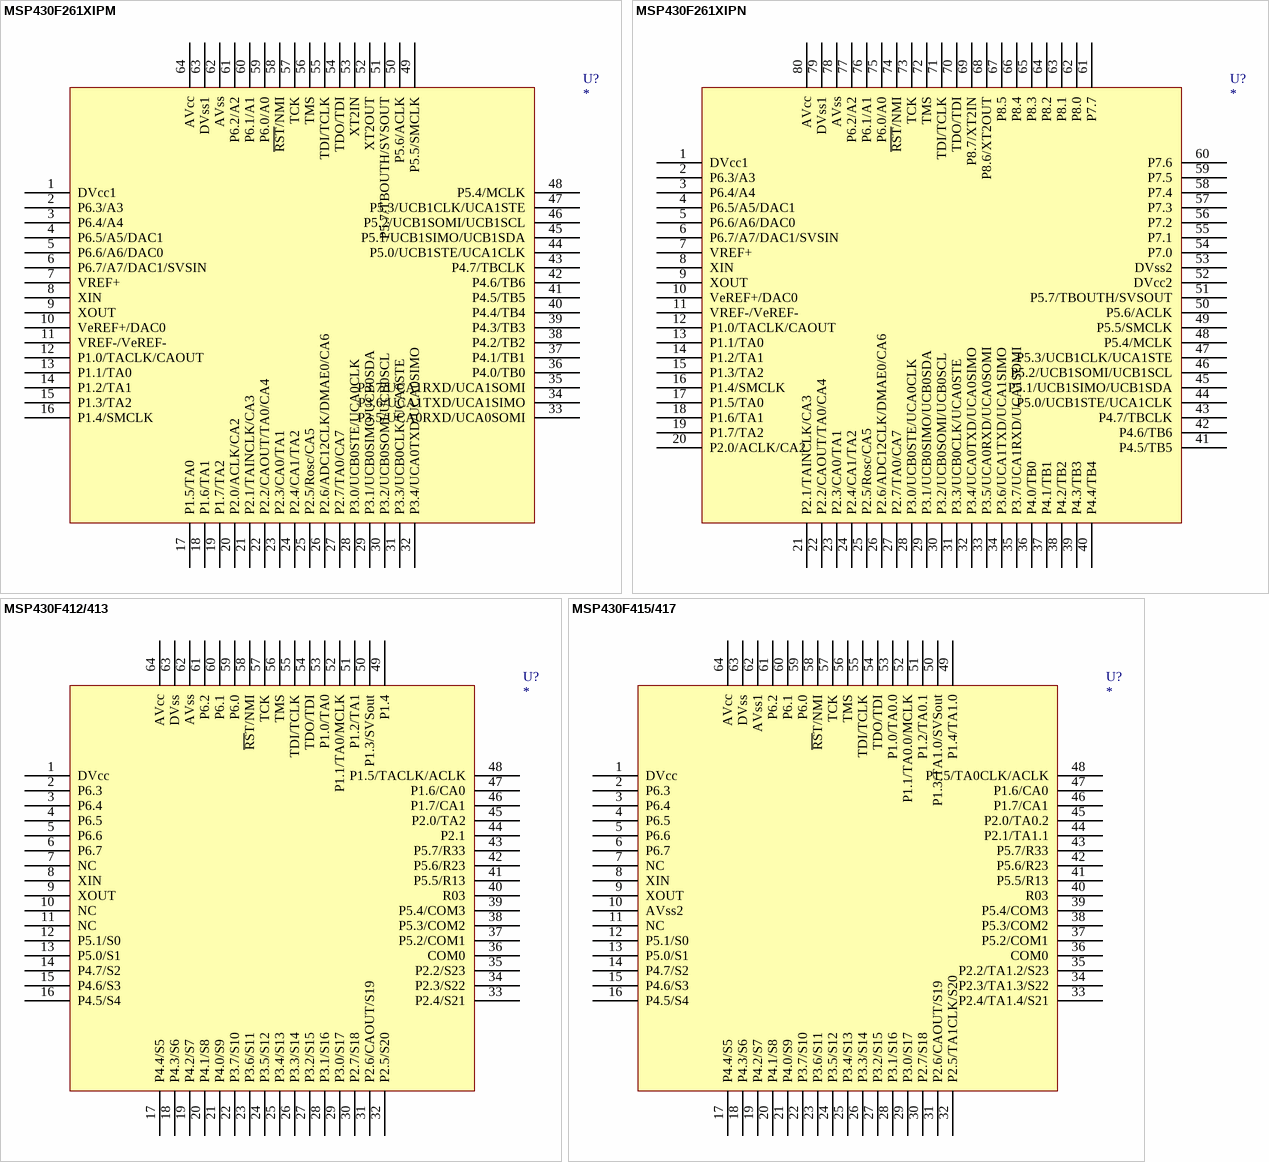
[diagram p21: symbols MSP430F261XIPM to MSP430F415/417]

## MSP430F261XIPM
designator U?
footprint S-PQFP-G64
pins: 1 DVcc1, 2 P6.3/A3, 3 P6.4/A4, 4 P6.5/A5/DAC1, 5 P6.6/A6/DAC0, 6 P6.7/A7/DAC1/SVSIN, 7 VREF+, 8 XIN, 9 XOUT, 10 VeREF+/DAC0, 11 VREF-/VeREF-, 12 P1.0/TACLK/CAOUT, 13 P1.1/TA0, 14 P1.2/TA1, 15 P1.3/TA2, 16 P1.4/SMCLK, 17 P1.5/TA0, 18 P1.6/TA1, 19 P1.7/TA2, 20 P2.0/ACLK/CA2, 21 P2.1/TAINCLK/CA3, 22 P2.2/CAOUT/TA0/CA4, 23 P2.3/CA0/TA1, 24 P2.4/CA1/TA2, 25 P2.5/Rosc/CA5, 26 P2.6/ADC12CLK/DMAE0/CA6, 27 P2.7/TA0/CA7, 28 P3.0/UCB0STE/UCA0CLK, 29 P3.1/UCB0SIMO/UCB0SDA, 30 P3.2/UCB0SOMI/UCB0SCL, 31 P3.3/UCB0CLK/UCA0STE, 32 P3.4/UCA0TXD/UCA0SIMO, 33 P3.5/UCA0RXD/UCA0SOMI, 34 P3.6/UCA1TXD/UCA1SIMO, 35 P3.7/UCA1RXD/UCA1SOMI, 36 P4.0/TB0, 37 P4.1/TB1, 38 P4.2/TB2, 39 P4.3/TB3, 40 P4.4/TB4, 41 P4.5/TB5, 42 P4.6/TB6, 43 P4.7/TBCLK, 44 P5.0/UCB1STE/UCA1CLK, 45 P5.1/UCB1SIMO/UCB1SDA, 46 P5.2/UCB1SOMI/UCB1SCL, 47 P5.3/UCB1CLK/UCA1STE, 48 P5.4/MCLK, 49 P5.5/SMCLK, 50 P5.6/ACLK, 51 P5.7/TBOUTH/SVSOUT, 52 XT2OUT, 53 XT2IN, 54 TDO/TDI, 55 TDI/TCLK, 56 TMS, 57 TCK, 58 ~{RST}/NMI, 59 P6.0/A0, 60 P6.1/A1, 61 P6.2/A2, 62 AVss, 63 DVss1, 64 AVcc

## MSP430F261XIPN
designator U?
MSP430F261XIPN
footprint S-PQFP-G80
pins: 1 DVcc1, 2 P6.3/A3, 3 P6.4/A4, 4 P6.5/A5/DAC1, 5 P6.6/A6/DAC0, 6 P6.7/A7/DAC1/SVSIN, 7 VREF+, 8 XIN, 9 XOUT, 10 VeREF+/DAC0, 11 VREF-/VeREF-, 12 P1.0/TACLK/CAOUT, 13 P1.1/TA0, 14 P1.2/TA1, 15 P1.3/TA2, 16 P1.4/SMCLK, 17 P1.5/TA0, 18 P1.6/TA1, 19 P1.7/TA2, 20 P2.0/ACLK/CA2, 21 P2.1/TAINCLK/CA3, 22 P2.2/CAOUT/TA0/CA4, 23 P2.3/CA0/TA1, 24 P2.4/CA1/TA2, 25 P2.5/Rosc/CA5, 26 P2.6/ADC12CLK/DMAE0/CA6, 27 P2.7/TA0/CA7, 28 P3.0/UCB0STE/UCA0CLK, 29 P3.1/UCB0SIMO/UCB0SDA, 30 P3.2/UCB0SOMI/UCB0SCL, 31 P3.3/UCB0CLK/UCA0STE, 32 P3.4/UCA0TXD/UCA0SIMO, 33 P3.5/UCA0RXD/UCA0SOMI, 34 P3.6/UCA1TXD/UCA1SIMO, 35 P3.7/UCA1RXD/UCA1SOMI, 36 P4.0/TB0, 37 P4.1/TB1, 38 P4.2/TB2, 39 P4.3/TB3, 40 P4.4/TB4, 41 P4.5/TB5, 42 P4.6/TB6, 43 P4.7/TBCLK, 44 P5.0/UCB1STE/UCA1CLK, 45 P5.1/UCB1SIMO/UCB1SDA, 46 P5.2/UCB1SOMI/UCB1SCL, 47 P5.3/UCB1CLK/UCA1STE, 48 P5.4/MCLK, 49 P5.5/SMCLK, 50 P5.6/ACLK, 51 P5.7/TBOUTH/SVSOUT, 52 DVcc2, 53 DVss2, 54 P7.0, 55 P7.1, 56 P7.2, 57 P7.3, 58 P7.4, 59 P7.5, 60 P7.6, 61 P7.7, 62 P8.0, 63 P8.1, 64 P8.2, 65 P8.3, 66 P8.4, 67 P8.5, 68 P8.6/XT2OUT, 69 P8.7/XT2IN, 70 TDO/TDI, 71 TDI/TCLK, 72 TMS, 73 TCK, 74 ~{RST}/NMI, 75 P6.0/A0, 76 P6.1/A1, 77 P6.2/A2, 78 AVss, 79 DVss1, 80 AVcc

## MSP430F412/413
designator U?
footprint S-PQFP-G64
pins: 1 DVcc (power), 2 P6.3 (power), 3 P6.4 (power), 4 P6.5 (power), 5 P6.6 (power), 6 P6.7 (power), 7 NC (power), 8 XIN (power), 9 XOUT (power), 10 NC (power), 11 NC (power), 12 P5.1/S0 (power), 13 P5.0/S1 (power), 14 P4.7/S2 (power), 15 P4.6/S3 (power), 16 P4.5/S4 (power), 17 P4.4/S5 (power), 18 P4.3/S6 (power), 19 P4.2/S7 (power), 20 P4.1/S8 (power), 21 P4.0/S9 (power), 22 P3.7/S10 (power), 23 P3.6/S11 (power), 24 P3.5/S12 (power), 25 P3.4/S13 (power), 26 P3.3/S14 (power), 27 P3.2/S15 (power), 28 P3.1/S16 (power), 29 P3.0/S17 (power), 30 P2.7/S18 (power), 31 P2.6/CAOUT/S19 (power), 32 P2.5/S20 (power), 33 P2.4/S21 (power), 34 P2.3/S22 (power), 35 P2.2/S23 (power), 36 COM0 (power), 37 P5.2/COM1 (power), 38 P5.3/COM2 (power), 39 P5.4/COM3 (power), 40 R03 (power), 41 P5.5/R13 (power), 42 P5.6/R23 (power), 43 P5.7/R33 (power), 44 P2.1 (power), 45 P2.0/TA2 (power), 46 P1.7/CA1 (power), 47 P1.6/CA0 (power), 48 P1.5/TACLK/ACLK (power), 49 P1.4 (power), 50 P1.3/SVSout (power), 51 P1.2/TA1 (power), 52 P1.1/TA0/MCLK (power), 53 P1.0/TA0 (power), 54 TDO/TDI (power), 55 TDI/TCLK (power), 56 TMS (power), 57 TCK (power), 58 ~{RS}T/NMI (power), 59 P6.0 (power), 60 P6.1 (power), 61 P6.2 (power), 62 AVss (power), 63 DVss (power), 64 AVcc (power)

## MSP430F415/417
designator U?
footprint S-PQFP-G64
pins: 1 DVcc (power), 2 P6.3 (power), 3 P6.4 (power), 4 P6.5 (power), 5 P6.6 (power), 6 P6.7 (power), 7 NC (power), 8 XIN (power), 9 XOUT (power), 10 AVss2 (power), 11 NC (power), 12 P5.1/S0 (power), 13 P5.0/S1 (power), 14 P4.7/S2 (power), 15 P4.6/S3 (power), 16 P4.5/S4 (power), 17 P4.4/S5 (power), 18 P4.3/S6 (power), 19 P4.2/S7 (power), 20 P4.1/S8 (power), 21 P4.0/S9 (power), 22 P3.7/S10 (power), 23 P3.6/S11 (power), 24 P3.5/S12 (power), 25 P3.4/S13 (power), 26 P3.3/S14 (power), 27 P3.2/S15 (power), 28 P3.1/S16 (power), 29 P3.0/S17 (power), 30 P2.7/S18 (power), 31 P2.6/CAOUT/S19 (power), 32 P2.5/TA1CLK/S20 (power), 33 P2.4/TA1.4/S21 (power), 34 P2.3/TA1.3/S22 (power), 35 P2.2/TA1.2/S23 (power), 36 COM0 (power), 37 P5.2/COM1 (power), 38 P5.3/COM2 (power), 39 P5.4/COM3 (power), 40 R03 (power), 41 P5.5/R13 (power), 42 P5.6/R23 (power), 43 P5.7/R33 (power), 44 P2.1/TA1.1 (power), 45 P2.0/TA0.2 (power), 46 P1.7/CA1 (power), 47 P1.6/CA0 (power), 48 P1.5/TA0CLK/ACLK (power), 49 P1.4/TA1.0 (power), 50 P1.3/TA1.0/SVSout (power), 51 P1.2/TA0.1 (power), 52 P1.1/TA0.0/MCLK (power), 53 P1.0/TA0.0 (power), 54 TDO/TDI (power), 55 TDI/TCLK (power), 56 TMS (power), 57 TCK (power), 58 ~{RS}T/NMI (power), 59 P6.0 (power), 60 P6.1 (power), 61 P6.2 (power), 62 AVss1 (power), 63 DVss (power), 64 AVcc (power)

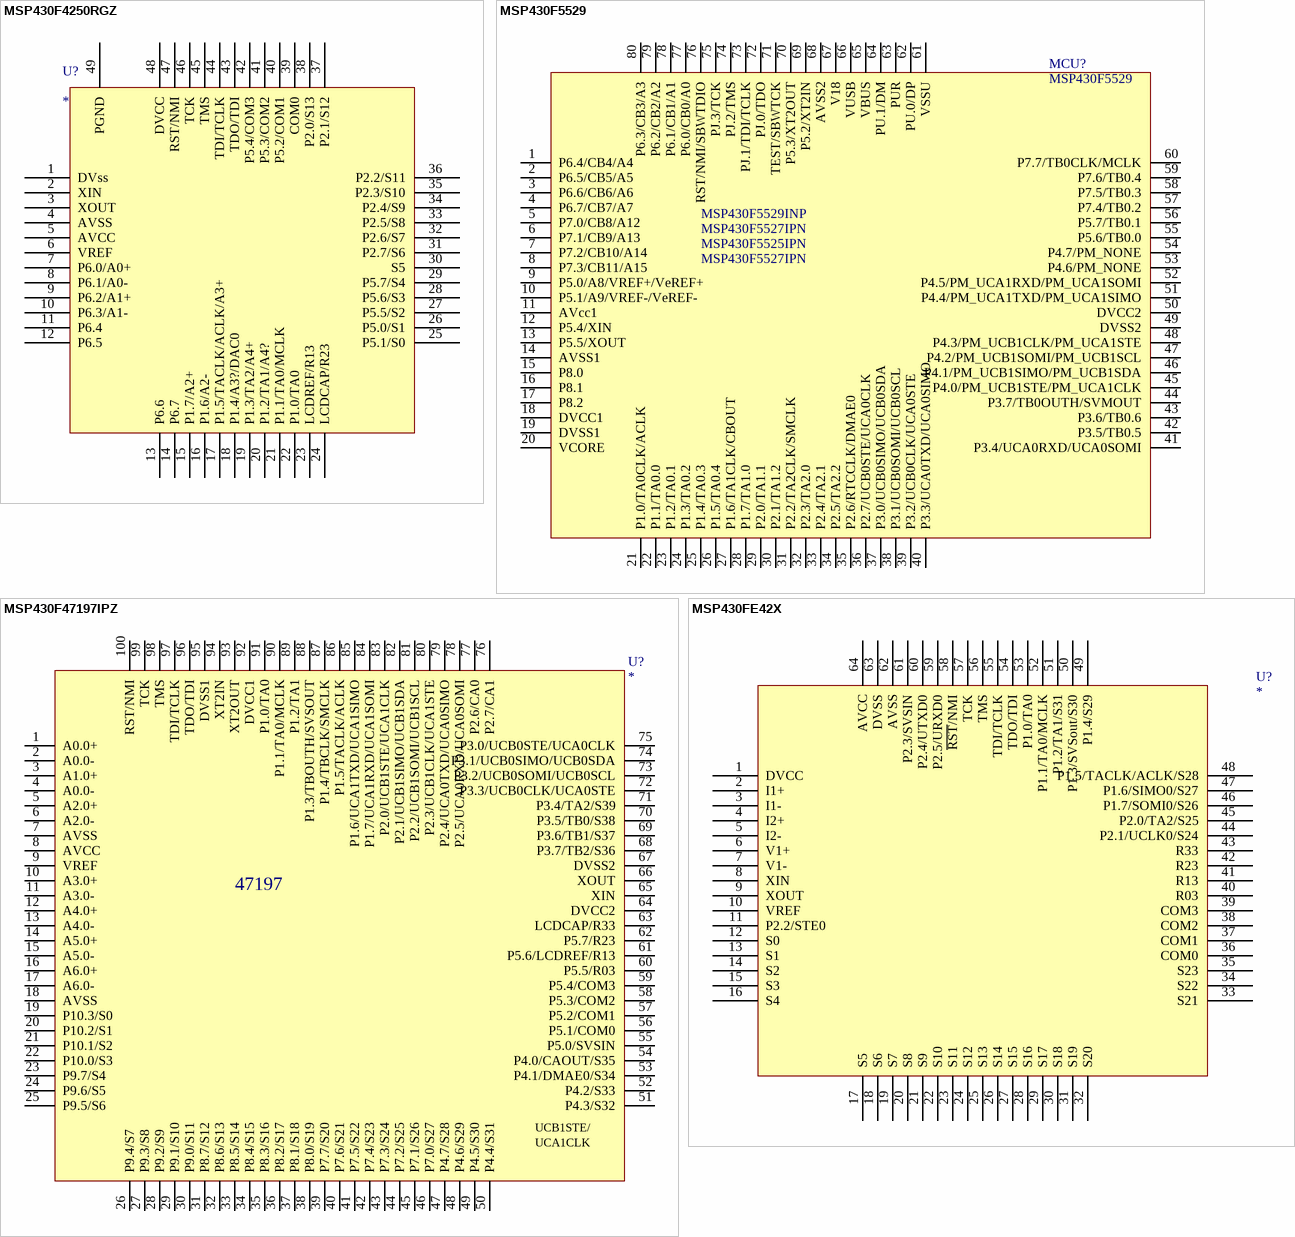
[diagram p22: symbols MSP430F4250RGZ to MSP430FE42X]

## MSP430F4250RGZ
designator U?
pins: 1 DVss, 2 XIN, 3 XOUT, 4 AVSS, 5 AVCC, 6 VREF, 7 P6.0/A0+, 8 P6.1/A0-, 9 P6.2/A1+, 10 P6.3/A1-, 11 P6.4, 12 P6.5, 13 P6.6, 14 P6.7, 15 P1.7/A2+, 16 P1.6/A2-, 17 P1.5/TACLK/ACLK/A3+, 18 P1.4/A3?/DAC0, 19 P1.3/TA2/A4+, 20 P1.2/TA1/A4?, 21 P1.1/TA0/MCLK, 22 P1.0/TA0, 23 LCDREF/R13, 24 LCDCAP/R23, 25 P5.1/S0, 26 P5.0/S1, 27 P5.5/S2, 28 P5.6/S3, 29 P5.7/S4, 30 S5, 31 P2.7/S6, 32 P2.6/S7, 33 P2.5/S8, 34 P2.4/S9, 35 P2.3/S10, 36 P2.2/S11, 37 P2.1/S12, 38 P2.0/S13, 39 COM0, 40 P5.2/COM1, 41 P5.3/COM2, 42 P5.4/COM3, 43 TDO/TDI, 44 TDI/TCLK, 45 TMS, 46 TCK, 47 RST/NMI, 48 DVCC, 49 PGND